# Altium schematic symbol library MY.SchLib: 652 symbols (part 2 of 7)
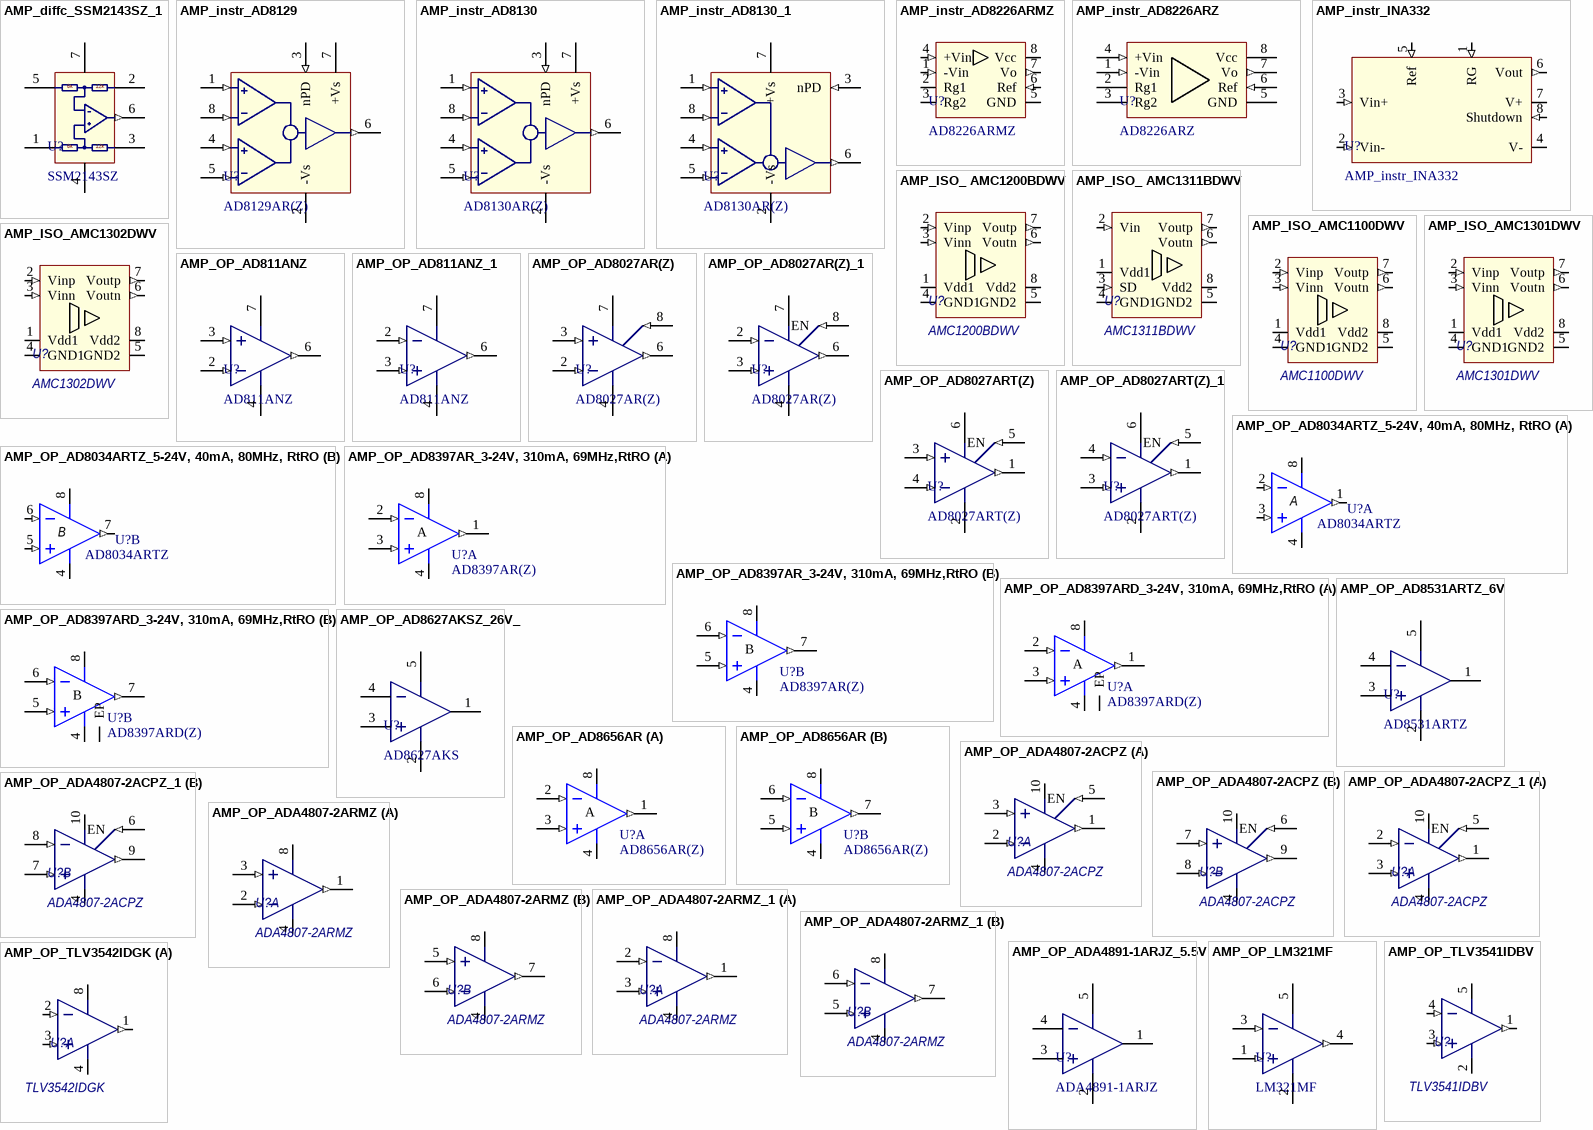
[diagram p42: symbols AMP_diffc_SSM2143SZ_1 to AMP_OP_TLV3542IDGK]

## AMP_OP_ADA4807-2ARMZ_1
designator U?, comment ADA4807-2ARMZ
2.7-11V, 50mA, 180MHz, R-R; HelpURL: L:\Dev\Техническая документация\Усилители\Операционные усилители\Высокоскоростные\ADA4807-1_4807-2_4807-4.pdf
footprint MSOP8
part A pins: 1 OUT (out), 2 -IN (in), 3 +IN (in), 4 Vss (power), 8 Vcc (power)
part B pins: 4 Vss (power), 5 +IN (in), 6 -IN (in), 7 OUT (out), 8 Vcc (power)

## AMP_OP_ADA4891-1ARJZ_5.5V
designator U?, comment ADA4891-1ARJZ
IC; Power Supply: 2.7-5.5V; Bandwidth: 220MHz, G=1; Rail to Rail: In, Out; Input Resistance: 5GOhm; Input Capacitance: 3.2pF; HelpURL: L:\Dev\Техническая документация\Усилители\Операционные усилители\Высокоскоростные\ADA4891-1_4891-2_4891-3_4891-4.PDF
footprint SOT23-5
pins: 1 OUT (power), 2 Vss (power), 3 +IN (power), 4 -IN (power), 5 Vcc (power)

## AMP_OP_LM321MF
designator U?, comment LM321MF
IC; Price, $: 0.4
footprint SOT23-5
pins: 1 +IN (in), 2 Vss (power), 3 -IN (in), 4 OUT (out), 5 Vcc (power)

## AMP_OP_TLV3541IDBV
designator U?, comment value TLV3541IDBV  (hidden comment: TLV3541IDBV, TI)
2.7-5.5V, 100mA, 200MHz, R-R; HelpURL: L:\Dev\Техническая документация\Усилители\Операционные усилители\Высокоскоростные\tlv3542_200MHz.pdf
footprint SOT23-5
pins: 1 OUT (out), 2 Vss (power), 3 +IN (in), 4 -IN (in), 5 Vcc (power)

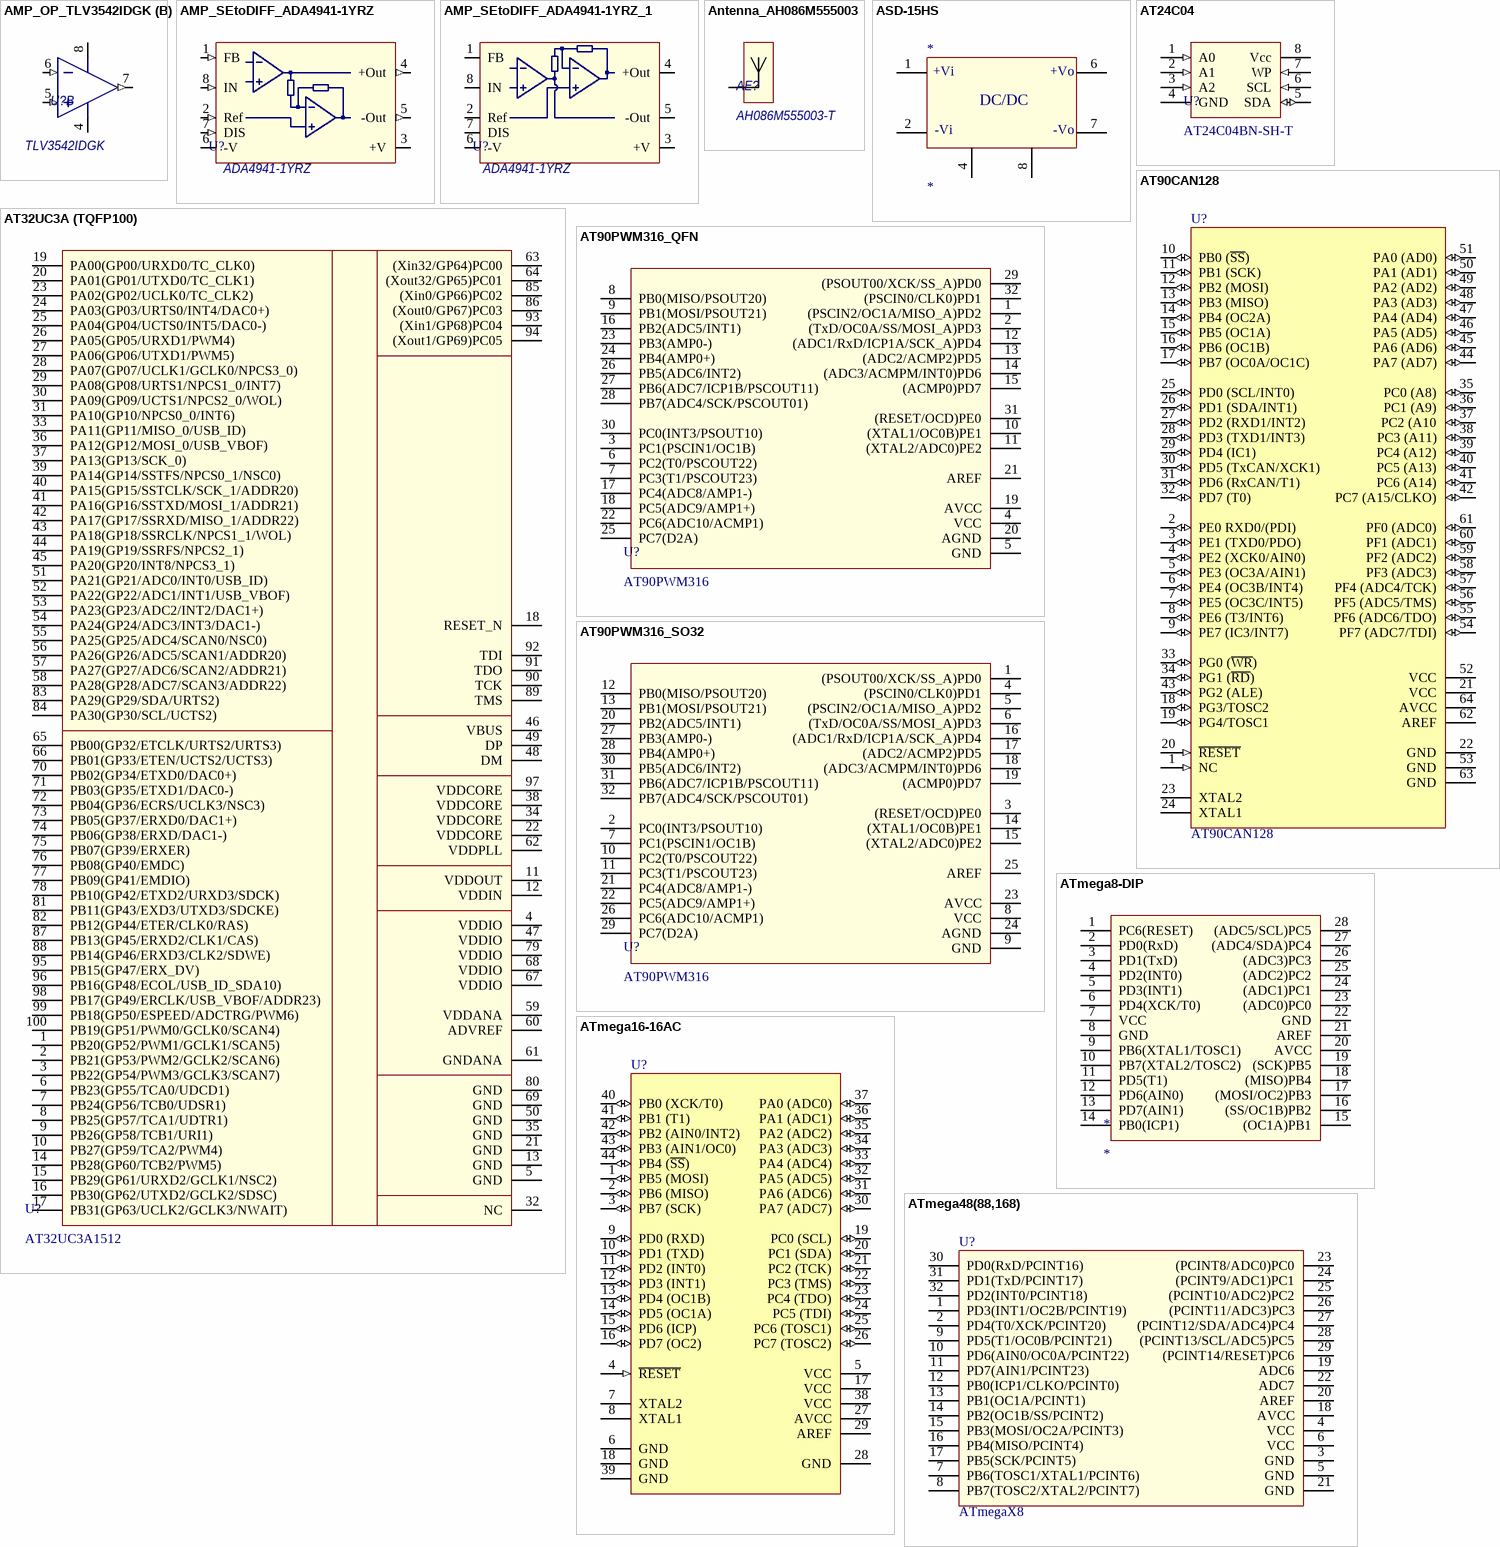
[diagram p6: symbols AMP_OP_TLV3542IDGK to ATmega48(88,168)]

## AMP_OP_TLV3542IDGK
designator U?, comment value TLV3542IDGK  (hidden comment: TLV3542IDGK, TI)
2.7-5.5V, 100mA, 200MHz, R-R; HelpURL: L:\Dev\Техническая документация\Усилители\Операционные усилители\Высокоскоростные\tlv3542_200MHz.pdf
footprint MSOP8
part A pins: 1 OUT (out), 2 -IN (in), 3 +IN (in), 4 Vss (power), 8 Vcc (power)
part B pins: 4 Vss (power), 5 +IN (in), 6 -IN (in), 7 OUT (out), 8 Vcc (power)

## AMP_SEtoDIFF_ADA4941-1YRZ
designator U?  value ADA4941-1YRZ  (hidden comment: AMP_SEtoDIFF_ADA4941-1YRZ)
HelpURL: L:\Dev\Техническая документация\Усилители\Драйвера для АЦП c диф входом\ADA4941-1.pdf
footprint SO8
pins: 1 FB (in), 2 Ref (in), 3 +V (power), 4 +Out (out), 5 -Out (out), 6 -V (power), 7 DIS (in), 8 IN (in)

## AMP_SEtoDIFF_ADA4941-1YRZ_1
designator U?  value ADA4941-1YRZ  (hidden comment: AMP_SEtoDIFF_ADA4941-1YRZ_1)
HelpURL: L:\Dev\Техническая документация\Усилители\Драйвера для АЦП c диф входом\ADA4941-1.pdf
footprint SO8
pins: 1 FB (power), 2 Ref (power), 3 +V (power), 4 +Out (power), 5 -Out (power), 6 -V (power), 7 DIS (power), 8 IN (power)

## Antenna_AH086M555003
designator AE?, comment AH086M555003-T
HelpURL: L:\Dev\Техническая документация\Антенны\СВЧ\AH086M555003.pdf
footprint Antenna_AH086M555003
pins: 5

## ASD-15HS
designator *
footprint DC/DC_WDD15-12S4
pins: 1, 2, 4, 6, 7, 8
text: +Vi; +Vo; DC/DC; -Vi; -Vo

## AT24C04
designator U?, comment AT24C04BN-SH-T
footprint SO8
pins: 1 A0 (in) "Address", 2 A1 (in) "Address", 3 A2 (in) "Address", 4 GND (power), 5 SDA (io) "I2C", 6 SCL (in) "I2C", 7 WP (in) "I2C", 8 Vcc (power) "Power"

## AT32UC3A (TQFP100)
designator U?, comment AT32UC3A1512
footprint TQFP-100(100A)
pins: 1 PB20(GP52/PWM1/GCLK1/SCAN5), 2 PB21(GP53/PWM2/GCLK2/SCAN6), 3 PB22(GP54/PWM3/GCLK3/SCAN7), 4 VDDIO, 5 GND, 6 PB23(GP55/TCA0/UDCD1), 7 PB24(GP56/TCB0/UDSR1), 8 PB25(GP57/TCA1/UDTR1), 9 PB26(GP58/TCB1/URI1), 10 PB27(GP59/TCA2/PWM4), 11 VDDOUT, 12 VDDIN, 13 GND, 14 PB28(GP60/TCB2/PWM5), 15 PB29(GP61/URXD2/GCLK1/NSC2), 16 PB30(GP62/UTXD2/GCLK2/SDSC), 17 PB31(GP63/UCLK2/GCLK3/NWAIT), 18 RESET_N, 19 PA00(GP00/URXD0/TC_CLK0), 20 PA01(GP01/UTXD0/TC_CLK1), 21 GND, 22 VDDCORE, 23 PA02(GP02/UCLK0/TC_CLK2), 24 PA03(GP03/URTS0/INT4/DAC0+), 25 PA04(GP04/UCTS0/INT5/DAC0-), 26 PA05(GP05/URXD1/PWM4), 27 PA06(GP06/UTXD1/PWM5), 28 PA07(GP07/UCLK1/GCLK0/NPCS3_0), 29 PA08(GP08/URTS1/NPCS1_0/INT7), 30 PA09(GP09/UCTS1/NPCS2_0/WOL), 31 PA10(GP10/NPCS0_0/INT6), 32 NC, 33 PA11(GP11/MISO_0/USB_ID), 34 VDDCORE, 35 GND, 36 PA12(GP12/MOSI_0/USB_VBOF), 37 PA13(GP13/SCK_0), 38 VDDCORE, 39 PA14(GP14/SSTFS/NPCS0_1/NSC0), 40 PA15(GP15/SSTCLK/SCK_1/ADDR20), 41 PA16(GP16/SSTXD/MOSI_1/ADDR21), 42 PA17(GP17/SSRXD/MISO_1/ADDR22), 43 PA18(GP18/SSRCLK/NPCS1_1/WOL), 44 PA19(GP19/SSRFS/NPCS2_1), 45 PA20(GP20/INT8/NPCS3_1), 46 VBUS, 47 VDDIO, 48 DM, 49 DP, 50 GND, 51 PA21(GP21/ADC0/INT0/USB_ID), 52 PA22(GP22/ADC1/INT1/USB_VBOF), 53 PA23(GP23/ADC2/INT2/DAC1+), 54 PA24(GP24/ADC3/INT3/DAC1-), 55 PA25(GP25/ADC4/SCAN0/NSC0), 56 PA26(GP26/ADC5/SCAN1/ADDR20), 57 PA27(GP27/ADC6/SCAN2/ADDR21), 58 PA28(GP28/ADC7/SCAN3/ADDR22), 59 VDDANA, 60 ADVREF, 61 GNDANA, 62 VDDPLL, 63 (Xin32/GP64)PC00, 64 (Xout32/GP65)PC01, 65 PB00(GP32/ETCLK/URTS2/URTS3), 66 PB01(GP33/ETEN/UCTS2/UCTS3), 67 VDDIO, 68 VDDIO, 69 GND, 70 PB02(GP34/ETXD0/DAC0+), 71 PB03(GP35/ETXD1/DAC0-), 72 PB04(GP36/ECRS/UCLK3/NSC3), 73 PB05(GP37/ERXD0/DAC1+), 74 PB06(GP38/ERXD/DAC1-), 75 PB07(GP39/ERXER), 76 PB08(GP40/EMDC), 77 PB09(GP41/EMDIO), 78 PB10(GP42/ETXD2/URXD3/SDCK), 79 VDDIO, 80 GND, 81 PB11(GP43/EXD3/UTXD3/SDCKE), 82 PB12(GP44/ETER/CLK0/RAS), 83 PA29(GP29/SDA/URTS2), 84 PA30(GP30/SCL/UCTS2), 85 (Xin0/GP66)PC02, 86 (Xout0/GP67)PC03, 87 PB13(GP45/ERXD2/CLK1/CAS), 88 PB14(GP46/ERXD3/CLK2/SDWE), 89 TMS, 90 TCK, 91 TDO, 92 TDI, 93 (Xin1/GP68)PC04, 94 (Xout1/GP69)PC05, 95 PB15(GP47/ERX_DV), 96 PB16(GP48/ECOL/USB_ID_SDA10), 97 VDDCORE, 98 PB17(GP49/ERCLK/USB_VBOF/ADDR23), 99 PB18(GP50/ESPEED/ADCTRG/PWM6), 100 PB19(GP51/PWM0/GCLK0/SCAN4)

## AT90CAN128
designator U?
8-Bit AVR Microcontroller with 64K Bytes of In-System Programmable Flash Memory; Published: 17-Sep-2003; LatestRevisionDate: 13-Apr-2006; LatestRevisionNote: IPC-7351 Footprint Added.; DatasheetVersion: 2490C-AVR-009/02; PackageVersion: revB, Oct-2001; PackageReference: 64A; Publisher: Altium Limited; PackageDescription: 64-Pin Thin Quad Flat Pack 0.8 mm Pitch; Code_JEDEC: MS-026-AEB; ComponentLink1Description: Manufacturer Link; ComponentLink1URL: http://www.atmel.com; ComponentLink2Description: Datasheet; ComponentLink2URL: http://www.atmel.com/dyn/resources/prod_documents/doc2490.pdf
footprint TQFP64 (64A) (Thin QFP, 64-Leads, Body 14x14mm, Pitch 0.8mm, IPC Medium Density)
pins: 1 NC (in), 2 PE0 RXD0/(PDI) (io), 3 PE1 (TXD0/PDO) (io), 4 PE2 (XCK0/AIN0) (io), 5 PE3 (OC3A/AIN1) (io), 6 PE4 (OC3B/INT4) (io), 7 PE5 (OC3C/INT5) (io), 8 PE6 (T3/INT6) (io), 9 PE7 (IC3/INT7) (io), 10 PB0 (~{SS}) (io), 11 PB1 (SCK) (io), 12 PB2 (MOSI) (io), 13 PB3 (MISO) (io), 14 PB4 (OC2A) (io), 15 PB5 (OC1A) (io), 16 PB6 (OC1B) (io), 17 PB7 (OC0A/OC1C) (io), 18 PG3/TOSC2 (io), 19 PG4/TOSC1 (io), 20 ~{RESET} (in), 21 VCC (power), 22 GND (power), 23 XTAL2, 24 XTAL1, 25 PD0 (SCL/INT0) (io), 26 PD1 (SDA/INT1) (io), 27 PD2 (RXD1/INT2) (io), 28 PD3 (TXD1/INT3) (io), 29 PD4 (IC1) (io), 30 PD5 (TxCAN/XCK1) (io), 31 PD6 (RxCAN/T1) (io), 32 PD7 (T0) (io), 33 PG0 (~{WR}) (io), 34 PG1 (~{RD}) (io), 35 PC0 (A8) (io), 36 PC1 (A9) (io), 37 PC2 (A10 (io), 38 PC3 (A11) (io), 39 PC4 (A12) (io), 40 PC5 (A13) (io), 41 PC6 (A14) (io), 42 PC7 (A15/CLKO) (io), 43 PG2 (ALE) (io), 44 PA7 (AD7) (io), 45 PA6 (AD6) (io), 46 PA5 (AD5) (io), 47 PA4 (AD4) (io), 48 PA3 (AD3) (io), 49 PA2 (AD2) (io), 50 PA1 (AD1) (io), 51 PA0 (AD0) (io), 52 VCC (power), 53 GND (power), 54 PF7 (ADC7/TDI) (io), 55 PF6 (ADC6/TDO) (io), 56 PF5 (ADC5/TMS) (io), 57 PF4 (ADC4/TCK) (io), 58 PF3 (ADC3) (io), 59 PF2 (ADC2) (io), 60 PF1 (ADC1) (io), 61 PF0 (ADC0) (io), 62 AREF, 63 GND (power), 64 AVCC (power)

## AT90PWM316_QFN
designator U?, comment AT90PWM316
footprint QFN32 (QFP; 32 Leads; Body 7 x 7 mm; Pitch 0.8 mm)
pins: 1 (PSCIN2/OC1A/MISO_A)PD2, 2 (TxD/OC0A/SS/MOSI_A)PD3, 3 PC1(PSCIN1/OC1B), 4 VCC, 5 GND, 6 PC2(T0/PSCOUT22), 7 PC3(T1/PSCOUT23), 8 PB0(MISO/PSOUT20), 9 PB1(MOSI/PSOUT21), 10 (XTAL1/OC0B)PE1, 11 (XTAL2/ADC0)PE2, 12 (ADC1/RxD/ICP1A/SCK_A)PD4, 13 (ADC2/ACMP2)PD5, 14 (ADC3/ACMPM/INT0)PD6, 15 (ACMP0)PD7, 16 PB2(ADC5/INT1), 17 PC4(ADC8/AMP1-), 18 PC5(ADC9/AMP1+), 19 AVCC, 20 AGND, 21 AREF, 22 PC6(ADC10/ACMP1), 23 PB3(AMP0-), 24 PB4(AMP0+), 25 PC7(D2A), 26 PB5(ADC6/INT2), 27 PB6(ADC7/ICP1B/PSCOUT11), 28 PB7(ADC4/SCK/PSCOUT01), 29 (PSOUT00/XCK/SS_A)PD0, 30 PC0(INT3/PSOUT10), 31 (RESET/OCD)PE0, 32 (PSCIN0/CLK0)PD1

## AT90PWM316_SO32
designator U?, comment AT90PWM316
footprint SO32
pins: 1 (PSOUT00/XCK/SS_A)PD0, 2 PC0(INT3/PSOUT10), 3 (RESET/OCD)PE0, 4 (PSCIN0/CLK0)PD1, 5 (PSCIN2/OC1A/MISO_A)PD2, 6 (TxD/OC0A/SS/MOSI_A)PD3, 7 PC1(PSCIN1/OC1B), 8 VCC, 9 GND, 10 PC2(T0/PSCOUT22), 11 PC3(T1/PSCOUT23), 12 PB0(MISO/PSOUT20), 13 PB1(MOSI/PSOUT21), 14 (XTAL1/OC0B)PE1, 15 (XTAL2/ADC0)PE2, 16 (ADC1/RxD/ICP1A/SCK_A)PD4, 17 (ADC2/ACMP2)PD5, 18 (ADC3/ACMPM/INT0)PD6, 19 (ACMP0)PD7, 20 PB2(ADC5/INT1), 21 PC4(ADC8/AMP1-), 22 PC5(ADC9/AMP1+), 23 AVCC, 24 AGND, 25 AREF, 26 PC6(ADC10/ACMP1), 27 PB3(AMP0-), 28 PB4(AMP0+), 29 PC7(D2A), 30 PB5(ADC6/INT2), 31 PB6(ADC7/ICP1B/PSCOUT11), 32 PB7(ADC4/SCK/PSCOUT01)

## ATmega8-DIP
designator *
pins: 1 PC6(RESET), 2 PD0(RxD), 3 PD1(TxD), 4 PD2(INT0), 5 PD3(INT1), 6 PD4(XCK/T0), 7 VCC, 8 GND, 9 PB6(XTAL1/TOSC1), 10 PB7(XTAL2/TOSC2), 11 PD5(T1), 12 PD6(AIN0), 13 PD7(AIN1), 14 PB0(ICP1), 15 (OC1A)PB1, 16 (SS/OC1B)PB2, 17 (MOSI/OC2)PB3, 18 (MISO)PB4, 19 (SCK)PB5, 20 AVCC, 21 AREF, 22 GND, 23 (ADC0)PC0, 24 (ADC1)PC1, 25 (ADC2)PC2, 26 (ADC3)PC3, 27 (ADC4/SDA)PC4, 28 (ADC5/SCL)PC5

## ATmega16-16AC
designator U?
8-Bit AVR Microcontroller with 16K Bytes of In-System Programmable Flash Memory; PackageDocument: rev.B, Oct-2001; Published: 17-Sep-2003; DatasheetDocument: 2466E-AVR-10/02; PackageReference: 44A; Publisher: Altium Limited
footprint 44A (QFP; 44 Leads; Body 10 x 10 mm; Pitch 0.8 mm)
pins: 1 PB5 (MOSI) (io), 2 PB6 (MISO) (io), 3 PB7 (SCK) (io), 4 ~{RESET} (in), 5 VCC (power), 6 GND (power), 7 XTAL2, 8 XTAL1, 9 PD0 (RXD) (io), 10 PD1 (TXD) (io), 11 PD2 (INT0) (io), 12 PD3 (INT1) (io), 13 PD4 (OC1B) (io), 14 PD5 (OC1A) (io), 15 PD6 (ICP) (io), 16 PD7 (OC2) (io), 17 VCC (power), 18 GND (power), 19 PC0 (SCL) (io), 20 PC1 (SDA) (io), 21 PC2 (TCK) (io), 22 PC3 (TMS) (io), 23 PC4 (TDO) (io), 24 PC5 (TDI) (io), 25 PC6 (TOSC1) (io), 26 PC7 (TOSC2) (io), 27 AVCC (power), 28 GND (power), 29 AREF, 30 PA7 (ADC7) (io), 31 PA6 (ADC6) (io), 32 PA5 (ADC5) (io), 33 PA4 (ADC4) (io), 34 PA3 (ADC3) (io), 35 PA2 (ADC2) (io), 36 PA1 (ADC1) (io), 37 PA0 (ADC0) (io), 38 VCC (power), 39 GND (power), 40 PB0 (XCK/T0) (io), 41 PB1 (T1) (io), 42 PB2 (AIN0/INT2) (io), 43 PB3 (AIN1/OC0) (io), 44 PB4 (~{SS}) (io)

## ATmega48(88,168)
designator U?, comment ATmegaX8
footprint TQFP32 (QFP; 32 Leads; Body 7 x 7 mm; Pitch 0.8 mm)
pins: 1 PD3(INT1/OC2B/PCINT19), 2 PD4(T0/XCK/PCINT20), 3 GND, 4 VCC, 5 GND, 6 VCC, 7 PB6(TOSC1/XTAL1/PCINT6), 8 PB7(TOSC2/XTAL2/PCINT7), 9 PD5(T1/OC0B/PCINT21), 10 PD6(AIN0/OC0A/PCINT22), 11 PD7(AIN1/PCINT23), 12 PB0(ICP1/CLKO/PCINT0), 13 PB1(OC1A/PCINT1), 14 PB2(OC1B/SS/PCINT2), 15 PB3(MOSI/OC2A/PCINT3), 16 PB4(MISO/PCINT4), 17 PB5(SCK/PCINT5), 18 AVCC, 19 ADC6, 20 AREF, 21 GND, 22 ADC7, 23 (PCINT8/ADC0)PC0, 24 (PCINT9/ADC1)PC1, 25 (PCINT10/ADC2)PC2, 26 (PCINT11/ADC3)PC3, 27 (PCINT12/SDA/ADC4)PC4, 28 (PCINT13/SCL/ADC5)PC5, 29 (PCINT14/RESET)PC6, 30 PD0(RxD/PCINT16), 31 PD1(TxD/PCINT17), 32 PD2(INT0/PCINT18)

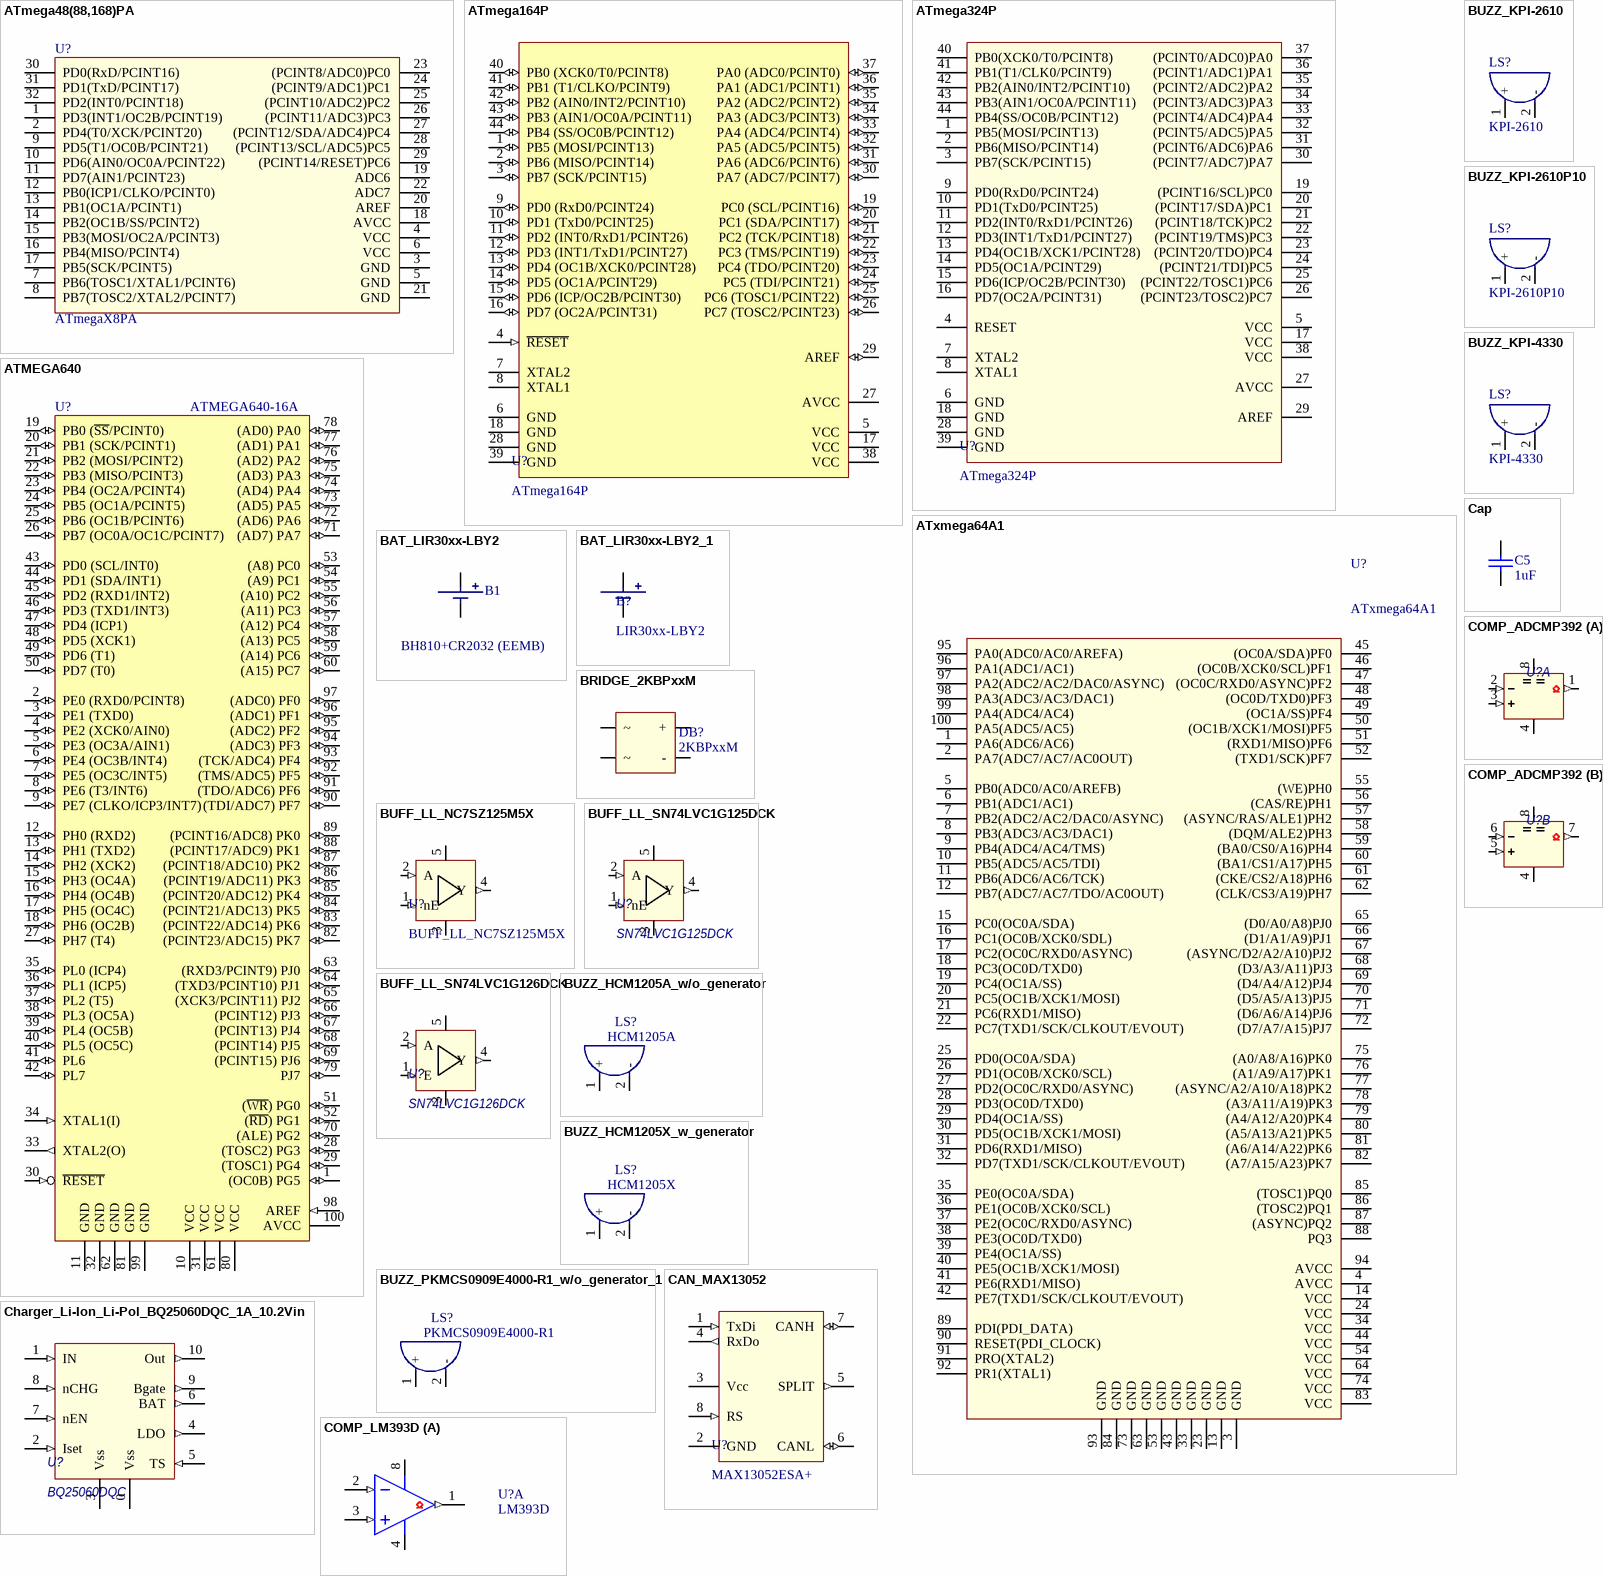
[diagram p7: symbols ATmega48(88,168)PA to COMP_LM393D]

## ATmega48(88,168)PA
designator U?, comment ATmegaX8PA
footprint TQFP32 (QFP; 32 Leads; Body 7 x 7 mm; Pitch 0.8 mm)
pins: 1 PD3(INT1/OC2B/PCINT19), 2 PD4(T0/XCK/PCINT20), 3 GND, 4 VCC, 5 GND, 6 VCC, 7 PB6(TOSC1/XTAL1/PCINT6), 8 PB7(TOSC2/XTAL2/PCINT7), 9 PD5(T1/OC0B/PCINT21), 10 PD6(AIN0/OC0A/PCINT22), 11 PD7(AIN1/PCINT23), 12 PB0(ICP1/CLKO/PCINT0), 13 PB1(OC1A/PCINT1), 14 PB2(OC1B/SS/PCINT2), 15 PB3(MOSI/OC2A/PCINT3), 16 PB4(MISO/PCINT4), 17 PB5(SCK/PCINT5), 18 AVCC, 19 ADC6, 20 AREF, 21 GND, 22 ADC7, 23 (PCINT8/ADC0)PC0, 24 (PCINT9/ADC1)PC1, 25 (PCINT10/ADC2)PC2, 26 (PCINT11/ADC3)PC3, 27 (PCINT12/SDA/ADC4)PC4, 28 (PCINT13/SCL/ADC5)PC5, 29 (PCINT14/RESET)PC6, 30 PD0(RxD/PCINT16), 31 PD1(TxD/PCINT17), 32 PD2(INT0/PCINT18)

## ATmega164P
designator U?
footprint TQFP44A (QFP; 44 Leads; Body 10 x 10 mm; Pitch 0.8 mm)
pins: 1 PB5 (MOSI/PCINT13) (io), 2 PB6 (MISO/PCINT14) (io), 3 PB7 (SCK/PCINT15) (io), 4 ~{RESET} (in), 5 VCC (power), 6 GND (power), 7 XTAL2, 8 XTAL1, 9 PD0 (RxD0/PCINT24) (io), 10 PD1 (TxD0/PCINT25) (io), 11 PD2 (INT0/RxD1/PCINT26) (io), 12 PD3 (INT1/TxD1/PCINT27) (io), 13 PD4 (OC1B/XCK0/PCINT28) (io), 14 PD5 (OC1A/PCINT29) (io), 15 PD6 (ICP/OC2B/PCINT30) (io), 16 PD7 (OC2A/PCINT31) (io), 17 VCC (power), 18 GND (power), 19 PC0 (SCL/PCINT16) (io), 20 PC1 (SDA/PCINT17) (io), 21 PC2 (TCK/PCINT18) (io), 22 PC3 (TMS/PCINT19) (io), 23 PC4 (TDO/PCINT20) (io), 24 PC5 (TDI/PCINT21) (io), 25 PC6 (TOSC1/PCINT22) (io), 26 PC7 (TOSC2/PCINT23) (io), 27 AVCC, 28 GND (power), 29 AREF (io), 30 PA7 (ADC7/PCINT7) (io), 31 PA6 (ADC6/PCINT6) (io), 32 PA5 (ADC5/PCINT5) (io), 33 PA4 (ADC4/PCINT4) (io), 34 PA3 (ADC3/PCINT3) (io), 35 PA2 (ADC2/PCINT2) (io), 36 PA1 (ADC1/PCINT1) (io), 37 PA0 (ADC0/PCINT0) (io), 38 VCC (power), 39 GND (power), 40 PB0 (XCK0/T0/PCINT8) (io), 41 PB1 (T1/CLKO/PCINT9) (io), 42 PB2 (AIN0/INT2/PCINT10) (io), 43 PB3 (AIN1/OC0A/PCINT11) (io), 44 PB4 (SS/OC0B/PCINT12) (io)

## ATmega324P
designator U?
footprint TQFP44A (QFP; 44 Leads; Body 10 x 10 mm; Pitch 0.8 mm)
pins: 1 PB5(MOSI/PCINT13), 2 PB6(MISO/PCINT14), 3 PB7(SCK/PCINT15), 4 RESET, 5 VCC, 6 GND, 7 XTAL2, 8 XTAL1, 9 PD0(RxD0/PCINT24), 10 PD1(TxD0/PCINT25), 11 PD2(INT0/RxD1/PCINT26), 12 PD3(INT1/TxD1/PCINT27), 13 PD4(OC1B/XCK1/PCINT28), 14 PD5(OC1A/PCINT29), 15 PD6(ICP/OC2B/PCINT30), 16 PD7(OC2A/PCINT31), 17 VCC, 18 GND, 19 (PCINT16/SCL)PC0, 20 (PCINT17/SDA)PC1, 21 (PCINT18/TCK)PC2, 22 (PCINT19/TMS)PC3, 23 (PCINT20/TDO)PC4, 24 (PCINT21/TDI)PC5, 25 (PCINT22/TOSC1)PC6, 26 (PCINT23/TOSC2)PC7, 27 AVCC, 28 GND, 29 AREF, 30 (PCINT7/ADC7)PA7, 31 (PCINT6/ADC6)PA6, 32 (PCINT5/ADC5)PA5, 33 (PCINT4/ADC4)PA4, 34 (PCINT3/ADC3)PA3, 35 (PCINT2/ADC2)PA2, 36 (PCINT1/ADC1)PA1, 37 (PCINT0/ADC0)PA0, 38 VCC, 39 GND, 40 PB0(XCK0/T0/PCINT8), 41 PB1(T1/CLK0/PCINT9), 42 PB2(AIN0/INT2/PCINT10), 43 PB3(AIN1/OC0A/PCINT11), 44 PB4(SS/OC0B/PCINT12)

## ATMEGA640
designator U?, comment ATMEGA640-16A
High-performance, Low-power AVR® 8-bit Microcontroller
footprint TQFP-100(100A)
signal-integrity model Model Name (Model Description)
pins: 1 (OC0B) PG5 (io), 2 PE0 (RXD0/PCINT8) (io), 3 PE1 (TXD0) (io), 4 PE2 (XCK0/AIN0) (io), 5 PE3 (OC3A/AIN1) (io), 6 PE4 (OC3B/INT4) (io), 7 PE5 (OC3C/INT5) (io), 8 PE6 (T3/INT6) (io), 9 PE7 (CLKO/ICP3/INT7) (io), 10 VCC (power), 11 GND (power), 12 PH0 (RXD2) (io), 13 PH1 (TXD2) (io), 14 PH2 (XCK2) (io), 15 PH3 (OC4A) (io), 16 PH4 (OC4B) (io), 17 PH5 (OC4C) (io), 18 PH6 (OC2B) (io), 19 PB0 (~{SS}/PCINT0) (io), 20 PB1 (SCK/PCINT1) (io), 21 PB2 (MOSI/PCINT2) (io), 22 PB3 (MISO/PCINT3) (io), 23 PB4 (OC2A/PCINT4) (io), 24 PB5 (OC1A/PCINT5) (io), 25 PB6 (OC1B/PCINT6) (io), 26 PB7 (OC0A/OC1C/PCINT7) (io), 27 PH7 (T4) (io), 28 (TOSC2) PG3 (io), 29 (TOSC1) PG4 (io), 30 ~{RESET} (in), 31 VCC (power), 32 GND (power), 33 XTAL2(O) (out), 34 XTAL1(I) (in), 35 PL0 (ICP4) (io), 36 PL1 (ICP5) (io), 37 PL2 (T5) (io), 38 PL3 (OC5A) (io), 39 PL4 (OC5B) (io), 40 PL5 (OC5C) (io), 41 PL6 (io), 42 PL7 (io), 43 PD0 (SCL/INT0) (io), 44 PD1 (SDA/INT1) (io), 45 PD2 (RXD1/INT2) (io), 46 PD3 (TXD1/INT3) (io), 47 PD4 (ICP1) (io), 48 PD5 (XCK1) (io), 49 PD6 (T1) (io), 50 PD7 (T0) (io), 51 (~{WR}) PG0 (io), 52 (~{RD}) PG1 (io), 53 (A8) PC0 (io), 54 (A9) PC1 (io), 55 (A10) PC2 (io), 56 (A11) PC3 (io), 57 (A12) PC4 (io), 58 (A13) PC5 (io), 59 (A14) PC6 (io), 60 (A15) PC7 (io), 61 VCC (power), 62 GND (power), 63 (RXD3/PCINT9) PJ0 (io), 64 (TXD3/PCINT10) PJ1 (io), 65 (XCK3/PCINT11) PJ2 (io), 66 (PCINT12) PJ3 (io), 67 (PCINT13) PJ4 (io), 68 (PCINT14) PJ5 (io), 69 (PCINT15) PJ6 (io), 70 (ALE) PG2 (io), 71 (AD7) PA7 (io), 72 (AD6) PA6 (io), 73 (AD5) PA5 (io), 74 (AD4) PA4 (io), 75 (AD3) PA3 (io), 76 (AD2) PA2 (io), 77 (AD1) PA1 (io), 78 (AD0) PA0 (io), 79 PJ7 (io), 80 VCC (power), 81 GND (power), 82 (PCINT23/ADC15) PK7 (io), 83 (PCINT22/ADC14) PK6 (io), 84 (PCINT21/ADC13) PK5 (io), 85 (PCINT20/ADC12) PK4 (io), 86 (PCINT19/ADC11) PK3 (io), 87 (PCINT18/ADC10) PK2 (io), 88 (PCINT17/ADC9) PK1 (io), 89 (PCINT16/ADC8) PK0 (io), 90 (TDI/ADC7) PF7 (io), 91 (TDO/ADC6) PF6 (io), 92 (TMS/ADC5) PF5 (io), 93 (TCK/ADC4) PF4 (io), 94 (ADC3) PF3 (io), 95 (ADC2) PF2 (io), 96 (ADC1) PF1 (io), 97 (ADC0) PF0 (io), 98 AREF (in), 99 GND (power), 100 AVCC (power)

## ATxmega64A1
designator U?
footprint TQFP-100(100A)
pins: 1 PA6(ADC6/AC6), 2 PA7(ADC7/AC7/AC0OUT), 3 GND, 4 AVCC, 5 PB0(ADC0/AC0/AREFB), 6 PB1(ADC1/AC1), 7 PB2(ADC2/AC2/DAC0/ASYNC), 8 PB3(ADC3/AC3/DAC1), 9 PB4(ADC4/AC4/TMS), 10 PB5(ADC5/AC5/TDI), 11 PB6(ADC6/AC6/TCK), 12 PB7(ADC7/AC7/TDO/AC0OUT), 13 GND, 14 VCC, 15 PC0(OC0A/SDA), 16 PC1(OC0B/XCK0/SDL), 17 PC2(OC0C/RXD0/ASYNC), 18 PC3(OC0D/TXD0), 19 PC4(OC1A/SS), 20 PC5(OC1B/XCK1/MOSI), 21 PC6(RXD1/MISO), 22 PC7(TXD1/SCK/CLKOUT/EVOUT), 23 GND, 24 VCC, 25 PD0(OC0A/SDA), 26 PD1(OC0B/XCK0/SCL), 27 PD2(OC0C/RXD0/ASYNC), 28 PD3(OC0D/TXD0), 29 PD4(OC1A/SS), 30 PD5(OC1B/XCK1/MOSI), 31 PD6(RXD1/MISO), 32 PD7(TXD1/SCK/CLKOUT/EVOUT), 33 GND, 34 VCC, 35 PE0(OC0A/SDA), 36 PE1(OC0B/XCK0/SCL), 37 PE2(OC0C/RXD0/ASYNC), 38 PE3(OC0D/TXD0), 39 PE4(OC1A/SS), 40 PE5(OC1B/XCK1/MOSI), 41 PE6(RXD1/MISO), 42 PE7(TXD1/SCK/CLKOUT/EVOUT), 43 GND, 44 VCC, 45 (OC0A/SDA)PF0, 46 (OC0B/XCK0/SCL)PF1, 47 (OC0C/RXD0/ASYNC)PF2, 48 (OC0D/TXD0)PF3, 49 (OC1A/SS)PF4, 50 (OC1B/XCK1/MOSI)PF5, 51 (RXD1/MISO)PF6, 52 (TXD1/SCK)PF7, 53 GND, 54 VCC, 55 (WE)PH0, 56 (CAS/RE)PH1, 57 (ASYNC/RAS/ALE1)PH2, 58 (DQM/ALE2)PH3, 59 (BA0/CS0/A16)PH4, 60 (BA1/CS1/A17)PH5, 61 (CKE/CS2/A18)PH6, 62 (CLK/CS3/A19)PH7, 63 GND, 64 VCC, 65 (D0/A0/A8)PJ0, 66 (D1/A1/A9)PJ1, 67 (ASYNC/D2/A2/A10)PJ2, 68 (D3/A3/A11)PJ3, 69 (D4/A4/A12)PJ4, 70 (D5/A5/A13)PJ5, 71 (D6/A6/A14)PJ6, 72 (D7/A7/A15)PJ7, 73 GND, 74 VCC, 75 (A0/A8/A16)PK0, 76 (A1/A9/A17)PK1, 77 (ASYNC/A2/A10/A18)PK2, 78 (A3/A11/A19)PK3, 79 (A4/A12/A20)PK4, 80 (A5/A13/A21)PK5, 81 (A6/A14/A22)PK6, 82 (A7/A15/A23)PK7, 83 VCC, 84 GND, 85 (TOSC1)PQ0, 86 (TOSC2)PQ1, 87 (ASYNC)PQ2, 88 PQ3, 89 PDI(PDI_DATA), 90 RESET(PDI_CLOCK), 91 PRO(XTAL2), 92 PR1(XTAL1), 93 GND, 94 AVCC, 95 PA0(ADC0/AC0/AREFA), 96 PA1(ADC1/AC1), 97 PA2(ADC2/AC2/DAC0/ASYNC), 98 PA3(ADC3/AC3/DAC1), 99 PA4(ADC4/AC4), 100 PA5(ADC5/AC5)

## BAT_LIR30xx-LBY2
designator B1, comment BH810+CR2032 (EEMB)
Answer: акк:LIR2016, LIR2025, LIR2032 бат:CR2032 (EEMB)
footprint BATHOLDER_BH810_d20mm
pins: 1 plus (power), 2 plus (power)

## BAT_LIR30xx-LBY2_1
designator B?, comment LIR30xx-LBY2
footprint BAT_LIR30xx-LBY2
pins: 1 plus (power), 2 plus (power)

## BRIDGE_2KBPxxM
designator DB?, comment 2KBPxxM
Analog: RS20x (www.cnmic.com)
footprint Bridge_2KBPxx_KBPG
pins: 1 +, 2 ~, 3 ~, 4 -

## BUFF_LL_NC7SZ125M5X
designator U?
footprint SOT23-5
pins: 1 nE (in), 2 A (in), 3 GND (power), 4 Y (out), 5 Vcc (power)

## BUFF_LL_SN74LVC1G125DCK
designator U?, comment SN74LVC1G125DCK
HelpURL: L:\Dev\Техническая документация\Логика\Буферы\sn74lvc1g126_ThreeState.pdf
footprint SC-70-5
pins: 1 nE (in), 2 A (in), 3 GND (power), 4 Y (out), 5 Vcc (power)

## BUFF_LL_SN74LVC1G126DCK
designator U?, comment SN74LVC1G126DCK
HelpURL: L:\Dev\Техническая документация\Логика\Буферы\sn74lvc1g126_ThreeState.pdf
footprint SC-70-5
pins: 1 E (in), 2 A (in), 3 GND (power), 4 Y (out), 5 Vcc (power)

## BUZZ_HCM1205A_w/o_generator
designator LS?, comment HCM1205A
footprint BUZZ-1205A
pins: 1 +, 2 -

## BUZZ_HCM1205X_w_generator
designator LS?, comment HCM1205X
footprint BUZZ-1205A
pins: 1 +, 2 -

## BUZZ_KPI-2610
designator LS?, comment KPI-2610
footprint BUZZ_KPI2610
pins: 1 +, 2 -

## BUZZ_KPI-2610P10
designator LS?, comment KPI-2610P10
footprint BUZZ_KPI2610P10
pins: 1 +, 2 -

## BUZZ_KPI-4330
designator LS?, comment KPI-4330
footprint BUZZ_KPI4330
pins: 1 +, 2 -

## BUZZ_PKMCS0909E4000-R1_w/o_generator_1
designator LS?, comment PKMCS0909E4000-R1
footprint BUZZ-PKMCS0909E4000-R1
pins: 1 +, 2 -

## CAN_MAX13052
designator U?, comment MAX13052ESA+
HelpURL: L:\Dev\Техническая документация\Интерфейсы\CAN\MAX13050-MAX13054.pdf
footprint SO8
pins: 1 TxDi (in), 2 GND (power), 3 Vcc (power), 4 RxDo (out), 5 SPLIT (out), 6 CANL (io), 7 CANH (io), 8 RS (in)

## Cap
designator C5, comment value 1uF  (hidden comment: 1u X 50V)
Capacitor; Published: 8-Jun-2000; LatestRevisionDate: 17-Jul-2002; LatestRevisionNote: Re-released for DXP Platform.; Publisher: Altium Limited
footprint 0805
footprint CAPR2.54-5.1x3.2 (Capacitor, Ceramic, Thru-Hole, Dipped Radial; Body 5.1 x 3.2 mm (WxT) Pin Spacing 2.54 mm (typ))
footprint CAPR5.08-7.8x3.2 (Capacitor, Ceramic, Thru-Hole, Dipped Radial; Body 7.8 x 3.2 mm (WxT) Pin Spacing 5.08 mm (typ))
simulation model CAP (Capacitor)
signal-integrity model Cap
pins: 1, 2

## Charger_Li-Ion_Li-Pol_BQ25060DQC_1A_10.2Vin
designator U?, comment BQ25060DQC
HelpURL: L:\Dev\Техническая документация\Микросхемы зарядные\Li-Ion_Li-Pol\bq25060.pdf
footprint PWSON-10-N10_TI
pins: 0 Vss (power), 1 IN (in), 2 Iset (in), 3 Vss (power), 4 LDO (out), 5 TS (in), 6 BAT (out), 7 nEN (in), 8 nCHG (in), 9 Bgate (out), 10 Out (out)

## COMP_ADCMP392
designator U?, comment ADCMP392ARZ  (value not drawn)
HelpURL: L:\Dev\Техническая документация\Компараторы\LowVoffset\ADCMP391_392_393.pdf
footprint SO8
part A pins: 1 OUT (out), 2 IN- (in), 3 IN+ (in), 4 V- (power), 8 V+ (power)
part B pins: 4 V- (power), 5 IN+ (in), 6 IN- (in), 7 OUT (out), 8 V+ (power)

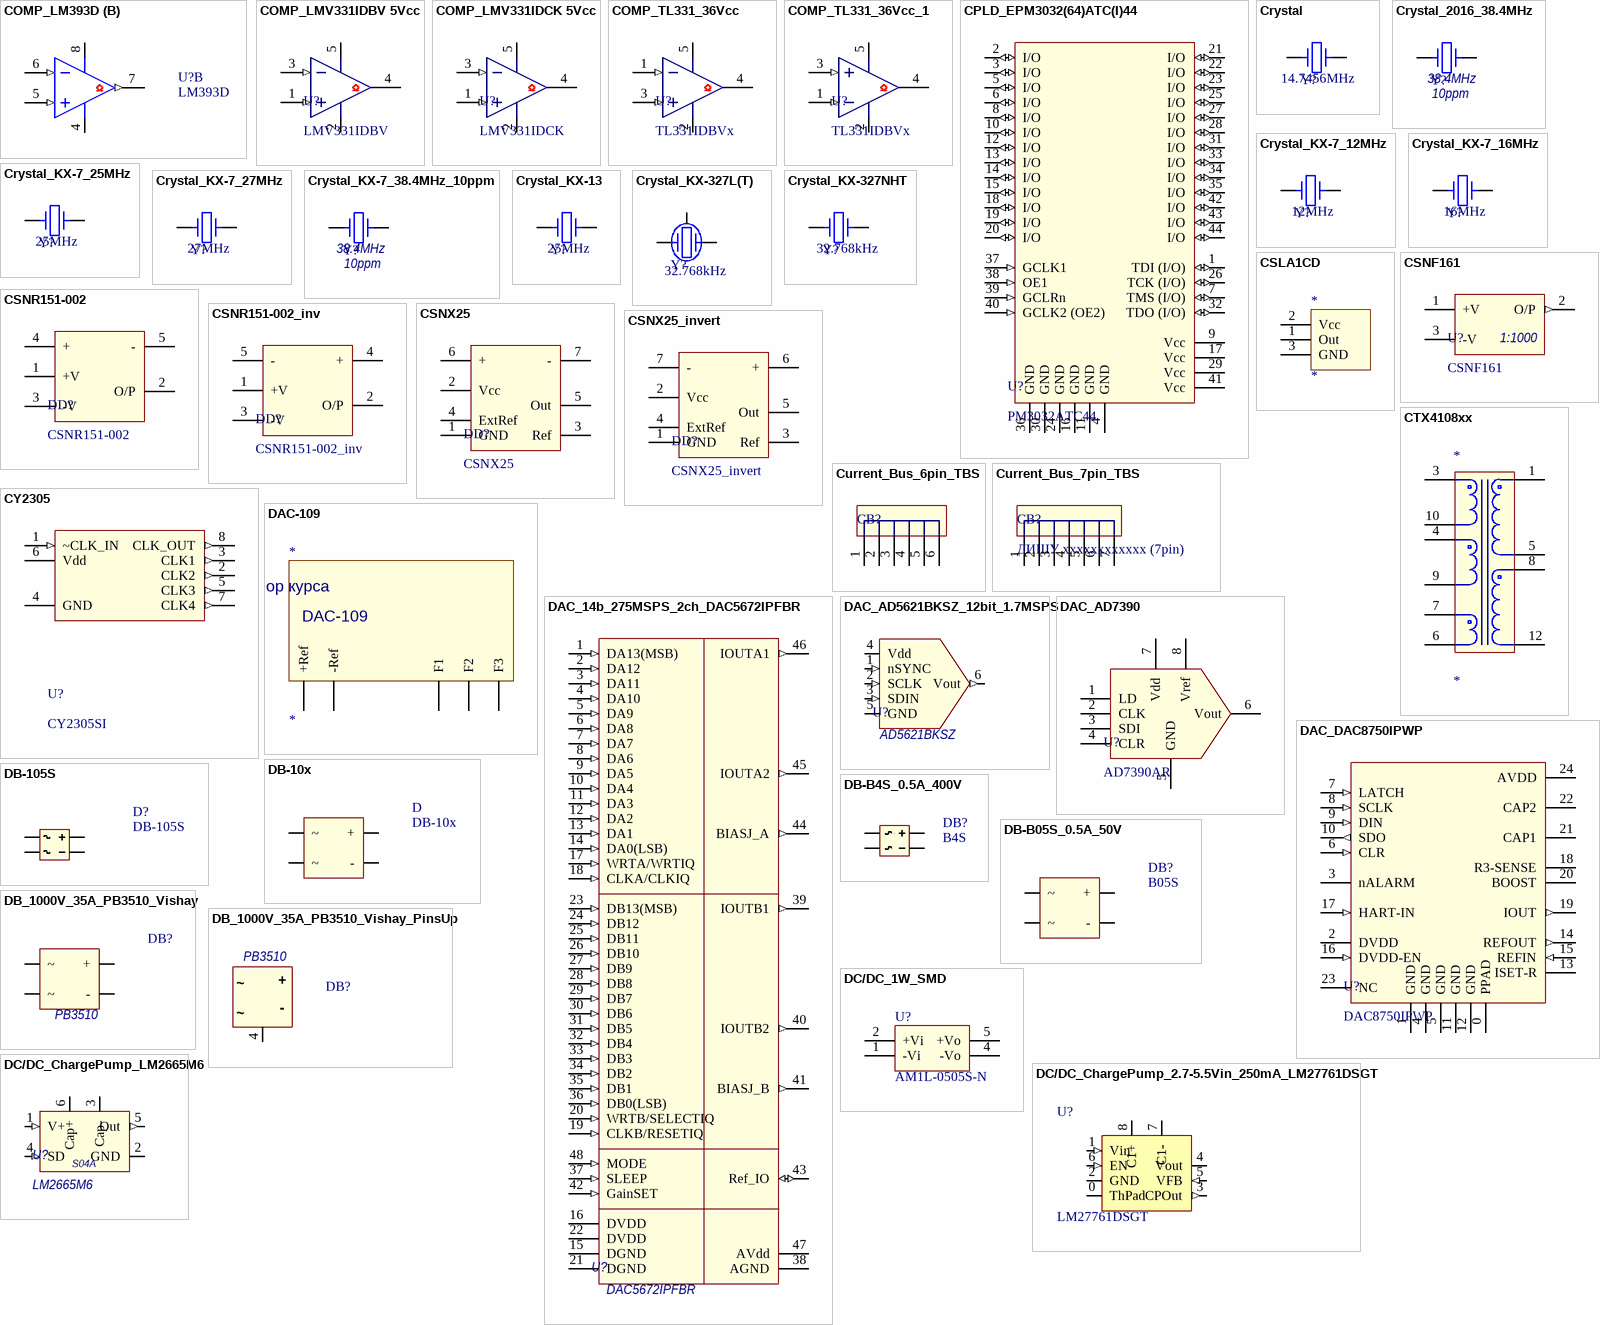
[diagram p8: symbols COMP_LM393D to DC/DC_ChargePump_LM2665M6]

## COMP_LM393D
designator U?, comment LM393D
Dual Comparator; Published: 17-Jul-2002; LatestRevisionDate: 13-Apr-2006; LatestRevisionNote: IPC-7351 Footprint Added.; DatasheetVersion: 1988; PackageReference: 751-02; Publisher: Altium Limited; PackageDescription: 8-Pin Small Outline Integrated Circuit 1.27 mm Pitch; Code_JEDEC: MS-012-AA; Code_IPC: SOIC127P600-8; ComponentLink1Description: Manufacturer Link; ComponentLink1URL: http://www.onsemi.com/site/products/taxonomy/0,4438,133,00.html
footprint SO8
part A pins: 1 OUT (out), 2 IN- (in), 3 IN+ (in), 4 V- (power), 8 V+ (power)
part B pins: 4 V- (power), 5 IN+ (in), 6 IN- (in), 7 OUT (out), 8 V+ (power)

## COMP_LMV331IDBV 5Vcc
designator U?, comment LMV331IDBV
IC; HelpURL: L:\Dev\Техническая документация\Компараторы\lmv331.pdf
footprint SOT23-5
pins: 1 +IN (in), 2 Vss (power), 3 -IN (in), 4 OUT (oc), 5 Vcc (power)

## COMP_LMV331IDCK 5Vcc
designator U?, comment LMV331IDCK
IC; HelpURL: L:\Dev\Техническая документация\Компараторы\lmv331.pdf
footprint SC-70-5
pins: 1 +IN (in), 2 Vss (power), 3 -IN (in), 4 OUT (oc), 5 Vcc (power)

## COMP_TL331_36Vcc
designator U?, comment TL331IDBVx
IC; HelpURL: L:\Dev\Техническая документация\Компараторы\tl331_36V_single.pdf; Price, $: 0.25
footprint SOT23-5
pins: 1 -IN (in), 2 Vss (power), 3 +IN (in), 4 OUT (oc), 5 Vcc (power)

## COMP_TL331_36Vcc_1
designator U?, comment TL331IDBVx
IC; HelpURL: L:\Dev\Техническая документация\Компараторы\tl331_36V_single.pdf; Price, $: 0.25
footprint SOT23-5
pins: 1 -IN (in), 2 Vss (power), 3 +IN (in), 4 OUT (oc), 5 Vcc (power)

## CPLD_EPM3032(64)ATC(I)44
designator U?, comment PM3032ATC44
footprint TQFP44A (QFP; 44 Leads; Body 10 x 10 mm; Pitch 0.8 mm)
pins: 1 TDI (I/O) (io), 2 I/O (io), 3 I/O (io), 4 GND (power), 5 I/O (io), 6 I/O (io), 7 TMS (I/O) (io), 8 I/O (io), 9 Vcc (power), 10 I/O (io), 11 GND (power), 12 I/O (io), 13 I/O (io), 14 I/O (io), 15 I/O (io), 16 GND (power), 17 Vcc (power), 18 I/O (io), 19 I/O (io), 20 I/O (io), 21 I/O (io), 22 I/O (io), 23 I/O (io), 24 GND (power), 25 I/O (io), 26 TCK (I/O) (io), 27 I/O (io), 28 I/O (io), 29 Vcc (power), 30 GND (power), 31 I/O (io), 32 TDO (I/O) (io), 33 I/O (io), 34 I/O (io), 35 I/O (io), 36 GND (power), 37 GCLK1 (in), 38 OE1 (in), 39 GCLRn (in), 40 GCLK2 (OE2) (in), 41 Vcc (power), 42 I/O (io), 43 I/O (io), 44 I/O (io)

## Crystal
designator Y?, comment Frequency: 14.7456MHz  (hidden comment: KX-3H(KX-K, KX-KS) 14.7456MHz)
Analog: KX-3H(T), KX-K, KX-KS
footprint CRYSTAL_DIP+SMD(HC-49S(M))
pins: 1, 2

## Crystal_2016_38.4MHz
designator Y?, comment Frequency: 38.4MHz  Tolerance: 10ppm  (hidden comment: 402F38411CAR,CTS)
Analog: 8Y-38.400MEEQ-T, TXC; HelpURL: L:\Dev\Техническая документация\Кварцевые резонаторы\CTS\402xxxxx.pdf
footprint CRYSTAL_SMD_2016
pins: 1, 2 hidden to GND, 3, 4 hidden to GND

## Crystal_KX-7_12MHz
designator Y?, comment Frequency: 12MHz  (hidden comment: NX3225GA-12MHZ)
Analog: KX-7-12MHz, Geyer
footprint CRYSTAL_SMD_3225_KX-7
pins: 1, 2 hidden to GND, 3, 4 hidden to GND

## Crystal_KX-7_16MHz
designator Y?, comment Frequency: 16MHz  (hidden comment: NX3225GA-16MHZ)
Analog: KX-7, Geyer
footprint CRYSTAL_SMD_3225_KX-7
pins: 1, 2 hidden to GND, 3, 4 hidden to GND

## Crystal_KX-7_25MHz
designator Y?, comment Frequency: 25MHz  (hidden comment: NX3225GA-25MHZ)
Analog: KX-7, Geyer; HelpURL: L:\Dev\Техническая документация\Кварцевые резонаторы\NDK\NX3225GA.pdf
footprint CRYSTAL_SMD_3225_KX-7
pins: 1, 2 hidden to GND, 3, 4 hidden to GND

## Crystal_KX-7_27MHz
designator Y?, comment Frequency: 27MHz  (hidden comment: NX3225GA-27MHZ)
Analog: KX-7-27MHz, Geyer
footprint CRYSTAL_SMD_3225_KX-7
pins: 1, 2 hidden to GND, 3, 4 hidden to GND

## Crystal_KX-7_38.4MHz_10ppm
designator Y?, comment Tolerance: 10ppm  Frequency: 38.4MHz  (hidden comment: FL3840006CT, Pericom)
Analog: FL3840015ZCT, Pericom; Load Capacitance: 10p
footprint CRYSTAL_SMD_3225_KX-7
pins: 1, 2 hidden to GND, 3, 4 hidden to GND

## Crystal_KX-13
designator Y?, comment Frequency: 25MHz  (hidden comment: KX-13)
Analog: KX-3H(T), KX-K, KX-KS
footprint qartz_KX-13
pins: 1, 2 hidden to GND, 3, 4 hidden to GND

## Crystal_KX-327L(T)
designator Y?, comment Frequency: 32.768kHz  (hidden comment: KX-327L(T)-32.7680-kHz)
Analog: KX-3H(T), KX-K, KX-KS
footprint CRYSTAL_KX-327L(T)
pins: 1, 2, 3, 4

## Crystal_KX-327NHT
designator Y?, comment Frequency: 32.768kHz  (hidden comment: NX3215SA-32.768K-10ppm-45KOhm-6pF)
Analog: KX-327NHT
footprint CRYSTAL_SMD_3215_KX-327NHT
pins: 1, 2

## CSLA1CD
designator *
footprint CSLA1CD
pins: 1 Out, 2 Vcc, 3 GND

## CSNF161
designator U?
footprint SENS_CSNF161
pins: 1 +V (power), 2 O/P (out), 3 -V (power)
text: 1:1000

## CSNR151-002
designator DD?
footprint CSNR151-002
pins: 1 +V, 2 O/P, 3 -V, 4 +, 5 -

## CSNR151-002_inv
designator DD?
footprint CSNR151-002
pins: 1 +V, 2 O/P, 3 -V, 4 +, 5 -

## CSNX25
designator DD?
footprint CSNX25
pins: 1 GND, 2 Vcc, 3 Ref, 4 ExtRef, 5 Out, 6 +, 7 -

## CSNX25_invert
designator DD?
footprint CSNX25
pins: 1 GND, 2 Vcc, 3 Ref, 4 ExtRef, 5 Out, 6 +, 7 -

## CTX4108xx
designator *
footprint CTX4108xx
pins: 1, 3, 4, 5, 6, 7, 8, 9, 10, 12

## Current_Bus_6pin_TBS
designator CB?, comment ДИШУ.270807.00.01 _ Токовая шина 6pin  (value not drawn)
footprint Current_bus_6pin_TBS
pins: 1, 2, 3, 4, 5, 6

## Current_Bus_7pin_TBS
designator CB?, comment ДИШУ хххххххххххх (7pin)
footprint Current_bus_7pin_TBS
pins: 1, 2, 3, 4, 5, 6, 7

## CY2305
designator U?, comment CY2305SI
footprint SO8
pins: 1 ~CLK_IN (in), 2 CLK2 (out), 3 CLK1 (out), 4 GND (power), 5 CLK3 (out), 6 Vdd (power), 7 CLK4 (out), 8 CLK_OUT (out)

## DAC-109
designator *
pins: 2 +Ref, 3 -Ref, 4 F1, 5 F2, 6 F3
text: Транслятор курса

## DAC_14b_275MSPS_2ch_DAC5672IPFBR
designator U?, comment value DAC5672IPFBR  (hidden comment: DAC5672IPFBR, TI)
HelpURL: L:\Dev\Техническая документация\DAC\HighSpeed\dac5672_14bit_275MSPS.pdf
footprint LQFP48_UNICONT
pins: 1 DA13(MSB) (in), 2 DA12 (in), 3 DA11 (in), 4 DA10 (in), 5 DA9 (in), 6 DA8 (in), 7 DA7 (in), 8 DA6 (in), 9 DA5 (in), 10 DA4 (in), 11 DA3 (in), 12 DA2 (in), 13 DA1 (in), 14 DA0(LSB) (in), 15 DGND (power), 16 DVDD (power), 17 WRTA/WRTIQ (in), 18 CLKA/CLKIQ (in), 19 CLKB/RESETIQ (in), 20 WRTB/SELECTIQ (in), 21 DGND (power), 22 DVDD (power), 23 DB13(MSB) (in), 24 DB12 (in), 25 DB11 (in), 26 DB10 (in), 27 DB9 (in), 28 DB8 (in), 29 DB7 (in), 30 DB6 (in), 31 DB5 (in), 32 DB4 (in), 33 DB3 (in), 34 DB2 (in), 35 DB1 (in), 36 DB0(LSB) (in), 37 SLEEP (in), 38 AGND (power), 39 IOUTB1 (out), 40 IOUTB2 (out), 41 BIASJ_B (out), 42 GainSET (in), 43 Ref_IO (io), 44 BIASJ_A (out), 45 IOUTA2 (out), 46 IOUTA1 (out), 47 AVdd (power), 48 MODE (in)

## DAC_AD5621BKSZ_12bit_1.7MSPS
designator U?, comment value AD5621BKSZ  (hidden comment: AD5621BKSZ, Analog)
HelpURL: L:\Dev\Техническая документация\DAC\1-2MSPS\AD5601_5611_5621_1.7MSPS8_10_12bit_Analog.pdf
footprint SC-70-6
pins: 1 nSYNC (in), 2 SCLK (in), 3 SDIN (in), 4 Vdd (power), 5 GND (power), 6 Vout (out)

## DAC_AD7390
designator U?, comment AD7390AR
footprint SO8
pins: 1 LD, 2 CLK, 3 SDI, 4 CLR, 5 GND, 6 Vout, 7 Vdd, 8 Vref

## DAC_DAC8750IPWP
designator U?, comment DAC8750IPWP
HelpURL: L:\Dev\Техническая документация\Интерфейсы\4-20mA\DAC\dac8750.pdf
footprint HTSSOP24
pins: 0 PPAD (power), 1 GND (power), 2 DVDD (power), 3 nALARM (oc), 4 GND (power), 5 GND (power), 6 CLR (in), 7 LATCH (in), 8 SCLK (in), 9 DIN (in), 10 SDO (out), 11 GND (power), 12 GND (power), 13 ISET-R, 14 REFOUT (out), 15 REFIN (in), 16 DVDD-EN (in), 17 HART-IN (in), 18 R3-SENSE, 19 IOUT (out), 20 BOOST, 21 CAP1, 22 CAP2, 23 NC, 24 AVDD (power)

## DB-10x
designator D
footprint DB-10X_SMD
pins: 1 ~, 2 ~, 3 +, 4 -

## DB-105S
designator D?
footprint DB-10X_SMD
pins: 1 ~, 2 ~, 3 +, 4 -

## DB-B4S_0.5A_400V
designator DB?, comment B4S
Voltage: 400Vdc; Current RMS: 0.5A; HelpURL: L:\Dev\Техническая документация\Диодные мосты\0.5A\B05S-B10S.pdf
footprint DB-1MS
pins: 1 ~, 2 ~, 3 +, 4 -

## DB-B05S_0.5A_50V
designator DB?, comment B05S
Voltage: 50Vdc; Current RMS: 0.5A; HelpURL: L:\Dev\Техническая документация\Диодные мосты\0.5A\B05S-B10S.pdf
footprint DB-1MS
pins: 1 ~, 2 ~, 3 +, 4 -

## DB_1000V_35A_PB3510_Vishay
designator DB?, comment value PB3510  (hidden comment: PB3510, Vishay)
HelpURL: L:\Dev\Техническая документация\Диодные мосты\pb3506_pb3508_pb3510.pdf
footprint DB_PBxxxx_Vishay_botside
pins: 1 +, 2 ~, 3 ~, 4 -

## DB_1000V_35A_PB3510_Vishay_PinsUp
designator DB?, comment value PB3510  (hidden comment: PB3510, Vishay)
HelpURL: L:\Dev\Техническая документация\Диодные мосты\pb3506_pb3508_pb3510.pdf
footprint DB_PBxxxx_Vishay_PinsUp
pins: 4 PowerPad (power)
text: ~; +; -

## DC/DC_1W_SMD
designator U?, comment AM1L-0505S-N
footprint DC/DC_1W_SMD
pins: 1 -Vi, 2 +Vi, 4 -Vo, 5 +Vo

## DC/DC_ChargePump_2.7-5.5Vin_250mA_LM27761DSGT
designator U?, comment LM27761DSGT
Part Number: IC_CHPM_LM27761DSGT_V000; Value: Charge Pump 2MHz, Low noise, 250mA; Voltage1: 2.7; Voltage2: 5.5; Inom: 0.25; id: {2ED8BF53-6B4C-4806-944D-8337EAA5B0B5}; Footprint: WSON8; Library Reference: LM27761DSGT; Pin Count: 9; HelpURL: L:\Dev\Техническая документация\Стабилизаторы напряжения\Импульсные (DC-DC не изол)\ChargePump\250mA_2.7-5Vin_LDO_lm27761.pdf
footprint WSON-8_TI
pins: 0 ThPad, 1 Vin (in), 2 GND (power), 3 CPOut (out), 4 Vout (power), 5 VFB (in), 6 EN (in), 7 C1-, 8 C1+

## DC/DC_ChargePump_LM2665M6
designator U?, comment LM2665M6
HelpURL: L:\Dev\Техническая документация\Стабилизаторы напряжения\Импульсные (DC-DC не изол)\ChargePump\tps6040x_60mA_1.6..5.5Vin.pdf
footprint SOT23-6
pins: 1 V+ (in), 2 GND (power), 3 Cap-, 4 SD (in), 5 Out (out), 6 Cap+
text: S04A

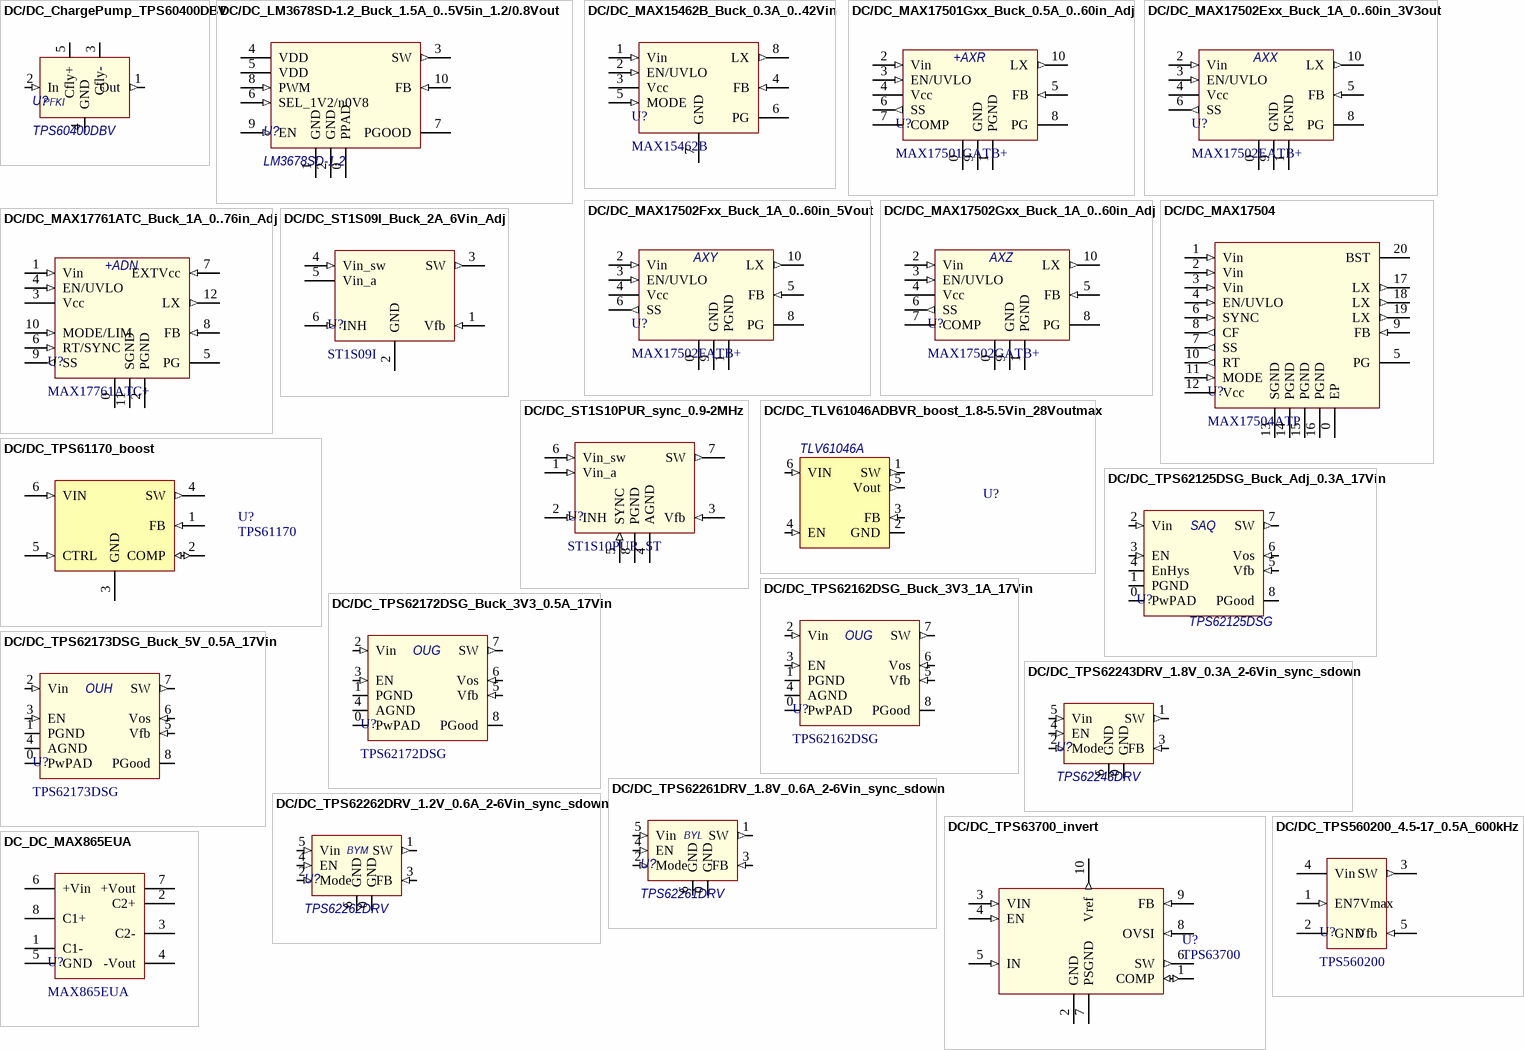
[diagram p9: symbols DC/DC_ChargePump_TPS60400DBV to DC_DC_MAX865EUA]

## DC/DC_ChargePump_TPS60400DBV
designator U?, comment TPS60400DBV
HelpURL: L:\Dev\Техническая документация\Стабилизаторы напряжения\Импульсные (DC-DC не изол)\ChargePump\tps6040x_60mA_1.6..5.5Vin.pdf
footprint SOT23-5
pins: 1 Out (out), 2 In (in), 3 Cfly-, 4 GND (power), 5 Cfly+
text: PFKI

## DC/DC_LM3678SD-1.2_Buck_1.5A_0..5V5in_1.2/0.8Vout
designator U?, comment LM3678SD-1.2
Analog: LM3678SDE-1.2; HelpURL: L:\Dev\Техническая документация\Стабилизаторы напряжения\Импульсные (DC-DC не изол)\more than 1MHz\5.5V_1.5A_3.3MHz_LM3678.pdf
footprint WSON-10
pins: 0 PPAD, 1 GND (power), 2 GND (power), 3 SW (out), 4 VDD (power), 5 VDD (power), 6 SEL_1V2/n0V8 (in), 7 PGOOD (oc), 8 PWM (in), 9 EN (in), 10 FB (in)

## DC/DC_MAX15462B_Buck_0.3A_0..42Vin
designator U?, comment MAX15462B
HelpURL: L:\Dev\Техническая документация\Стабилизаторы напряжения\Импульсные (DC-DC не изол)\MaximIC\MAX15462.pdf
footprint TDFN-8
pins: 1 Vin (in), 2 EN/UVLO (in), 3 Vcc (power), 4 FB (in), 5 MODE (in), 6 PG (oc), 7 GND (power), 8 LX (out)

## DC/DC_MAX17501Gxx_Buck_0.5A_0..60in_Adj
designator U?, comment MAX17501GATB+
HelpURL: L:\Dev\Техническая документация\Стабилизаторы напряжения\Импульсные (DC-DC не изол)\MaximIC\60V_05A_MAX17501\60V_0.5A_MAX17501.pdf; ComponentLink1Description: Top Mark; ComponentLink1URL: L:\Dev\Техническая документация\Стабилизаторы напряжения\Импульсные (DC-DC не изол)\MaximIC\60V_05A_MAX17501\MAX17501_TopMark.pdf; ComponentLink2Description: Package; ComponentLink3Description: Land Pattern; ComponentLink3URL: L:\Dev\Техническая документация\Стабилизаторы напряжения\Импульсные (DC-DC не изол)\MaximIC\60V_05A_MAX17501\MAX17501_LandPattern.pdf; ComponentLink2URL: L:\Dev\Техническая документация\Стабилизаторы напряжения\Импульсные (DC-DC не изол)\MaximIC\60V_05A_MAX17501\MAX17501_Package.pdf
footprint TDFN-10
pins: 0 EP (power), 1 PGND (power), 2 Vin (in), 3 EN/UVLO (in), 4 Vcc (power), 5 FB (in), 6 SS (out), 7 COMP, 8 PG (oc), 9 GND (power), 10 LX (out)
text: +AXR

## DC/DC_MAX17502Exx_Buck_1A_0..60in_3V3out
designator U?, comment MAX17502EATB+
Help: MAX17502EATB+ - 3.3V; MAX17502FATB+ 5V; HelpURL: L:\Dev\Техническая документация\Стабилизаторы напряжения\Импульсные (DC-DC не изол)\MaximIC\MAX17502.pdf; ComponentLink1Description: Top Mark; ComponentLink1URL: L:\Dev\Техническая документация\Стабилизаторы напряжения\Импульсные (DC-DC не изол)\MaximIC\MAX17502_top_mark.pdf
footprint TDFN-10
pins: 0 EP (power), 1 PGND (power), 2 Vin (in), 3 EN/UVLO (in), 4 Vcc (power), 5 FB (in), 6 SS (out), 7 NC hidden, 8 PG (oc), 9 GND (power), 10 LX (out)
text: AXX

## DC/DC_MAX17502Fxx_Buck_1A_0..60in_5Vout
designator U?, comment MAX17502FATB+
Help: MAX17502EATB+ - 3.3V; MAX17502FATB+ 5V; HelpURL: L:\Dev\Техническая документация\Стабилизаторы напряжения\Импульсные (DC-DC не изол)\MaximIC\MAX17502.pdf; ComponentLink1Description: Top Mark; ComponentLink1URL: L:\Dev\Техническая документация\Стабилизаторы напряжения\Импульсные (DC-DC не изол)\MaximIC\MAX17502_top_mark.pdf
footprint TDFN-10
pins: 0 EP (power), 1 PGND (power), 2 Vin (in), 3 EN/UVLO (in), 4 Vcc (power), 5 FB (in), 6 SS (out), 7 NC hidden, 8 PG (oc), 9 GND (power), 10 LX (out)
text: AXY

## DC/DC_MAX17502Gxx_Buck_1A_0..60in_Adj
designator U?, comment MAX17502GATB+
Help: MAX17502GATB+ - 3.3V; MAX17502HATB+ 5V; HelpURL: L:\Dev\Техническая документация\Стабилизаторы напряжения\Импульсные (DC-DC не изол)\MaximIC\MAX17502.pdf; ComponentLink1Description: Top Mark; ComponentLink1URL: L:\Dev\Техническая документация\Стабилизаторы напряжения\Импульсные (DC-DC не изол)\MaximIC\MAX17502_top_mark.pdf
footprint TDFN-10
pins: 0 EP (power), 1 PGND (power), 2 Vin (in), 3 EN/UVLO (in), 4 Vcc (power), 5 FB (in), 6 SS (out), 7 COMP, 8 PG (oc), 9 GND (power), 10 LX (out)
text: AXZ

## DC/DC_MAX17504
designator U?, comment MAX17504ATP
HelpURL: L:\Dev\Техническая документация\Стабилизаторы напряжения\Импульсные (DC-DC не изол)\MaximIC\MAX17504.pdf
footprint QFN20
pins: 0 EP (power), 1 Vin (in), 2 Vin (in), 3 Vin (in), 4 EN/UVLO (in), 5 PG (oc), 6 SYNC (in), 7 SS (out), 8 CF (out), 9 FB (in), 10 RT (out), 11 MODE (in), 12 Vcc (power), 13 SGND (power), 14 PGND (power), 15 PGND (power), 16 PGND (power), 17 LX (out), 18 LX (out), 19 LX (out), 20 BST (power)

## DC/DC_MAX17761ATC_Buck_1A_0..76in_Adj
designator U?, comment MAX17761ATC+
HelpURL: L:\Dev\Техническая документация\Стабилизаторы напряжения\Импульсные (DC-DC не изол)\MaximIC\76V_1A_MAX17761\76V_1A_MAX17761.pdf; ComponentLink1Description: Package; ComponentLink1URL: L:\Dev\Техническая документация\Стабилизаторы напряжения\Импульсные (DC-DC не изол)\MaximIC\76V_1A_MAX17761\76V_1A_MAX17761_package.pdf; ComponentLink2Description: Land Pattern; ComponentLink3Description: Evaluation Kit; ComponentLink2URL: L:\Dev\Техническая документация\Стабилизаторы напряжения\Импульсные (DC-DC не изол)\MaximIC\76V_1A_MAX17761\76V_1A_MAX17761_landpattern.pdf; ComponentLink3URL: L:\Dev\Техническая документация\Стабилизаторы напряжения\Импульсные (DC-DC не изол)\MaximIC\76V_1A_MAX17761\76V_1A_MAX17761_EvaluetionKit.pdf
footprint TDFN-12
pins: 0 EP (power), 1 Vin (in), 2 PGND (power), 3 Vcc (power), 4 EN/UVLO (in), 5 PG (oc), 6 RT/SYNC (in), 7 EXTVcc (in), 8 FB (in), 9 SS (out), 10 MODE/LIM (in), 11 SGND (power), 12 LX (out)
text: +ADN

## DC/DC_ST1S09I_Buck_2A_6Vin_Adj
designator U?, comment ST1S09I
HelpURL: L:\Dev\Техническая документация\Стабилизаторы напряжения\Импульсные (DC-DC не изол)\ST\ST1S09_2A_1.5MHz_6Vin.pdf
footprint DFN6D
pins: 0 (power), 1 Vfb (in), 2 GND (power), 3 SW (out), 4 Vin_sw (in), 5 Vin_a (power), 6 INH (in)

## DC/DC_ST1S10PUR_sync_0.9-2MHz
designator U?, comment ST1S10PUR, ST
Vfb: 0.8V; Vinh: On - 1.2V; Off - 0.4V; HelpURL: L:\Dev\Техническая документация\Стабилизаторы напряжения\Импульсные (DC-DC не изол)\ST\ST1S10_3A_1.2MHz_18Vin.pdf
footprint DFN8_ST
pins: 0 PPAD (power), 1 Vin_a (in), 2 INH (in), 3 Vfb (in), 4 AGND (power), 5 SYNC (in), 6 Vin_sw (in), 7 SW (out), 8 PGND (power)

## DC/DC_TLV61046ADBVR_boost_1.8-5.5Vin_28Voutmax
designator U?, comment value TLV61046A  (hidden comment: TLV61046ADBVR, TI)
DC/DC voltage regulator; HelpURL: L:\Dev\Техническая документация\Стабилизаторы напряжения\Бустерные\1MHz+\tlv61046a_1V8_5V5in_28Vout.pdf
footprint SOT23-6
pins: 1 SW (out), 2 GND (power), 3 FB (in), 4 EN (in), 5 Vout (out), 6 VIN (in)

## DC/DC_TPS61170_boost
designator U?, comment TPS61170
DC/DC voltage regulator; HelpURL: L:\Dev\Техническая документация\Стабилизаторы напряжения\Бустерные\1MHz+\tps61170.pdf
footprint PWSON-6
pins: 0 PowerPAD (power), 1 FB (in), 2 COMP (io), 3 GND (power), 4 SW (out), 5 CTRL (in), 6 VIN (in)

## DC/DC_TPS62125DSG_Buck_Adj_0.3A_17Vin
designator U?, comment value TPS62125DSG  (hidden comment: TPS62125DSG, TI)
HelpURL: L:\Dev\Техническая документация\Стабилизаторы напряжения\Импульсные (DC-DC не изол)\1MHZ\tps62125_0.3A_3..17Vin_1.2-10Vout_1MHz.pdf
footprint WSON-8_TI
pins: 0 PwPAD (power), 1 PGND (power), 2 Vin (in), 3 EN (in), 4 EnHys (oc), 5 Vfb (in), 6 Vos (in), 7 SW (out), 8 PGood (oc)
text: SAQ

## DC/DC_TPS62162DSG_Buck_3V3_1A_17Vin
designator U?, comment TPS62162DSG
HelpURL: L:\Dev\Техническая документация\Стабилизаторы напряжения\Импульсные (DC-DC не изол)\more than 1MHz\tps6216x_17Vin_1A_2.25MHz.pdf
footprint WSON-8_TI
pins: 0 PwPAD (power), 1 PGND (power), 2 Vin (in), 3 EN (in), 4 AGND (power), 5 Vfb (in), 6 Vos (in), 7 SW (out), 8 PGood (oc)
text: OUG

## DC/DC_TPS62172DSG_Buck_3V3_0.5A_17Vin
designator U?, comment TPS62172DSG
HelpURL: L:\Dev\Техническая документация\Стабилизаторы напряжения\Импульсные (DC-DC не изол)\more than 1MHz\tps6217x_17Vin_0.5A_2.25MHz.pdf
footprint WSON-8_TI
pins: 0 PwPAD (power), 1 PGND (power), 2 Vin (in), 3 EN (in), 4 AGND (power), 5 Vfb (in), 6 Vos (in), 7 SW (out), 8 PGood (oc)
text: OUG

## DC/DC_TPS62173DSG_Buck_5V_0.5A_17Vin
designator U?, comment TPS62173DSG
HelpURL: L:\Dev\Техническая документация\Стабилизаторы напряжения\Импульсные (DC-DC не изол)\more than 1MHz\tps6217x_17Vin_0.5A_2.25MHz.pdf
footprint WSON-8_TI
pins: 0 PwPAD (power), 1 PGND (power), 2 Vin (in), 3 EN (in), 4 AGND (power), 5 Vfb (in), 6 Vos (in), 7 SW (out), 8 PGood (oc)
text: OUH

## DC/DC_TPS62243DRV_1.8V_0.3A_2-6Vin_sync_sdown
designator U?, comment TPS62243DRV
HelpURL: L:\Dev\Техническая документация\Стабилизаторы напряжения\Импульсные (DC-DC не изол)\more than 1MHz\6V_0.3A_2.25MHz_tps62243.pdf
footprint PWSON-6
pins: 0 GND (power), 1 SW (out), 2 Mode (in), 3 FB (in), 4 EN (in), 5 Vin (in), 6 GND (power)

## DC/DC_TPS62261DRV_1.8V_0.6A_2-6Vin_sync_sdown
designator U?, comment TPS62261DRV
HelpURL: L:\Dev\Техническая документация\Стабилизаторы напряжения\Импульсные (DC-DC не изол)\more than 1MHz\6V_0.6A_2.25MHz_tps6226x_TI.pdf
footprint PWSON-6
pins: 0 GND (power), 1 SW (out), 2 Mode (in), 3 FB (in), 4 EN (in), 5 Vin (in), 6 GND (power)
text: BYL

## DC/DC_TPS62262DRV_1.2V_0.6A_2-6Vin_sync_sdown
designator U?, comment TPS62262DRV
HelpURL: L:\Dev\Техническая документация\Стабилизаторы напряжения\Импульсные (DC-DC не изол)\more than 1MHz\6V_0.6A_2.25MHz_tps6226x_TI.pdf
footprint PWSON-6
pins: 0 GND (power), 1 SW (out), 2 Mode (in), 3 FB (in), 4 EN (in), 5 Vin (in), 6 GND (power)
text: BYM

## DC/DC_TPS63700_invert
designator U?, comment TPS63700
DC/DC voltage regulator
footprint PWSON-10
pins: 0 PowerPAD (power), 1 COMP (io), 2 GND (power), 3 VIN (in), 4 EN (in), 5 IN (in), 6 SW (out), 7 PSGND (power), 8 OVSI (in), 9 FB (in), 10 Vref (out)

## DC/DC_TPS560200_4.5-17_0.5A_600kHz
designator U?, comment TPS560200
Vin: 4.5-17V; Iout: 0.5A; Vfb: 0.8V; EN: On-1.29V; Off-1.05V; max 7V;; fsw: 600kHz; HelpURL: L:\Dev\Техническая документация\Стабилизаторы напряжения\Импульсные (DC-DC не изол)\500кГц\tps560200.pdf
footprint SOT23-5
pins: 1 EN7Vmax (in), 2 GND (power), 3 SW (out), 4 Vin (power), 5 Vfb (in)

## DC_DC_MAX865EUA
designator U?, comment MAX865EUA
footprint uSOP8(uMAX8)
pins: 1 C1-, 2 C2+, 3 C2-, 4 -Vout, 5 GND, 6 +Vin, 7 +Vout, 8 C1+

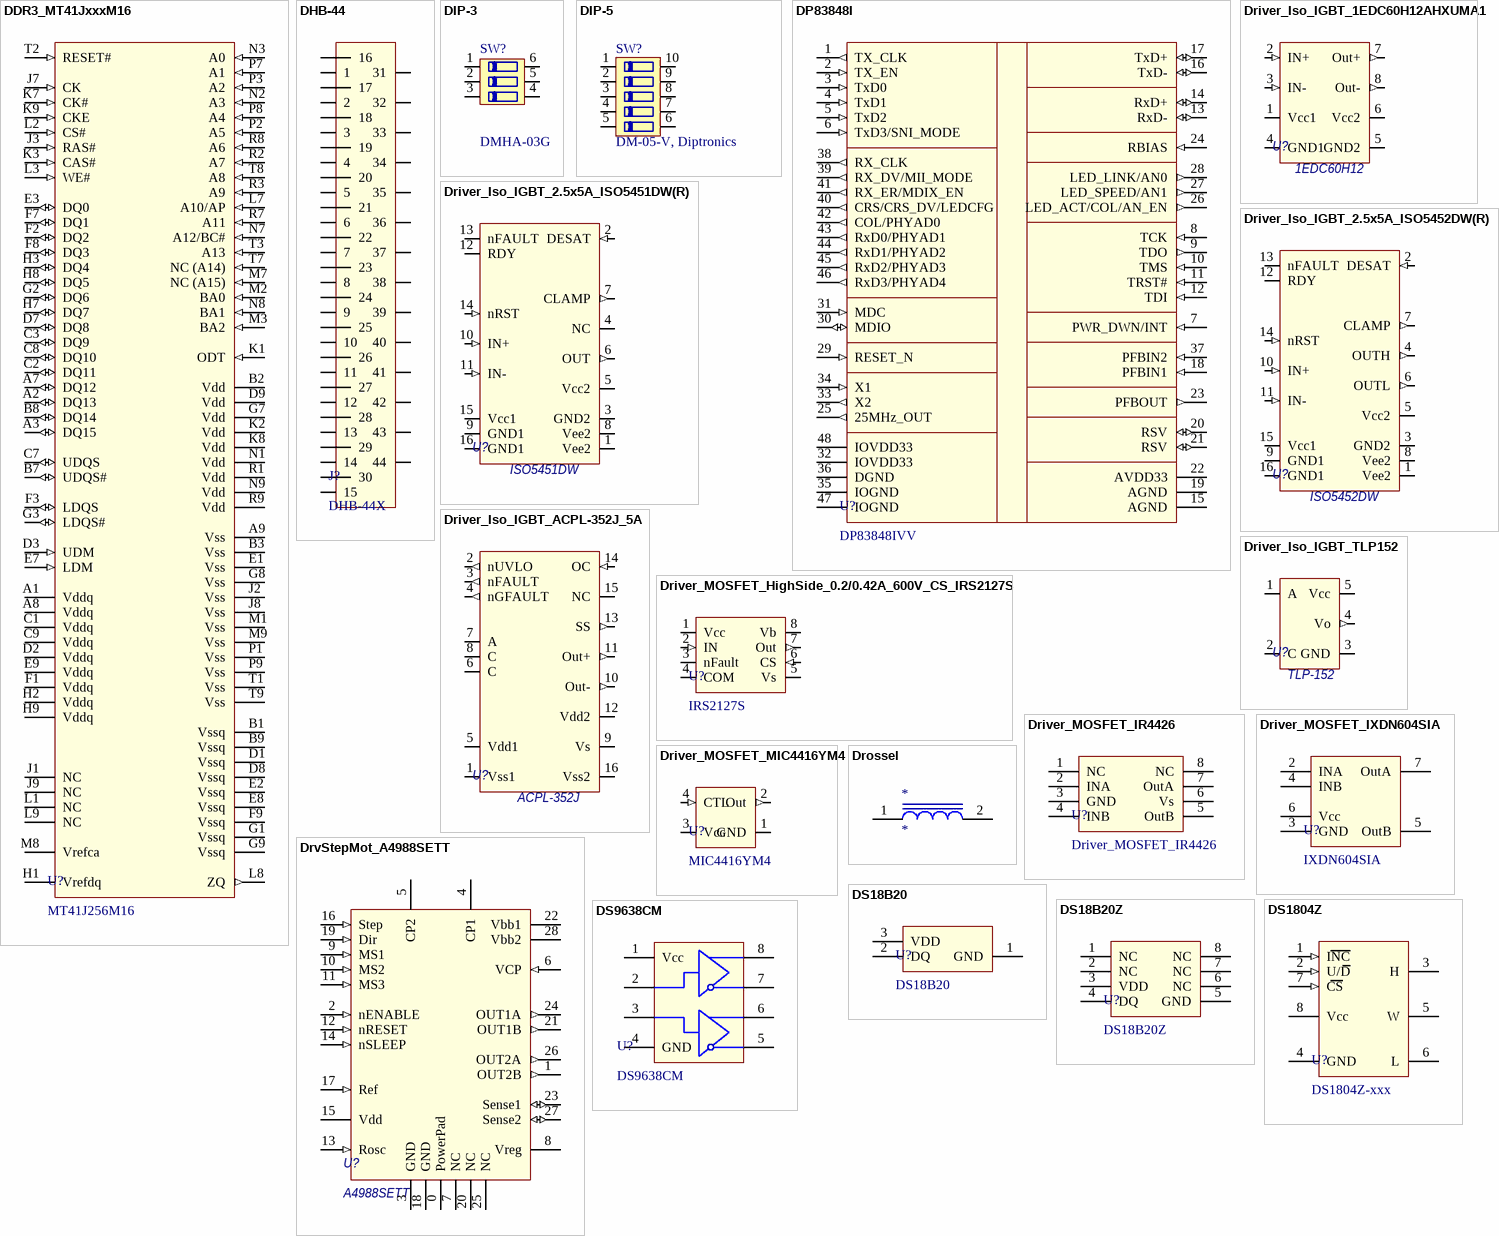
[diagram p10: symbols DDR3_MT41JxxxM16 to DS9638CM]

## DDR3_MT41JxxxM16
designator U?, comment MT41J256M16
footprint BGA96_8x16
pins: A1 Vddq (power), A2 DQ13 (io), A3 DQ15 (io), A7 DQ12 (io), A8 Vddq (power), A9 Vss (power), B1 Vssq (power), B2 Vdd (power), B3 Vss (power), B7 UDQS# (io), B8 DQ14 (io), B9 Vssq (power), C1 Vddq (power), C2 DQ11 (io), C3 DQ9 (io), C7 UDQS (io), C8 DQ10 (io), C9 Vddq (power), D1 Vssq (power), D2 Vddq (power), D3 UDM (in), D7 DQ8 (io), D8 Vssq (power), D9 Vdd (power), E1 Vss (power), E2 Vssq (power), E3 DQ0 (io), E7 LDM (in), E8 Vssq (power), E9 Vddq (power), F1 Vddq (power), F2 DQ2 (io), F3 LDQS (io), F7 DQ1 (io), F8 DQ3 (io), F9 Vssq (power), G1 Vssq (power), G2 DQ6 (io), G3 LDQS# (io), G7 Vdd (power), G8 Vss (power), G9 Vssq (power), H1 Vrefdq (power), H2 Vddq (power), H3 DQ4 (io), H7 DQ7 (io), H8 DQ5 (io), H9 Vddq (power), J1 NC, J2 Vss (power), J3 RAS# (in), J7 CK (in), J8 Vss (power), J9 NC, K1 ODT (in), K2 Vdd (power), K3 CAS# (in), K7 CK# (in), K8 Vdd (power), K9 CKE (in), L1 NC, L2 CS# (in), L3 WE# (in), L7 A10/AP (in), L8 ZQ (out), L9 NC, M1 Vss (power), M2 BA0 (in), M3 BA2 (in), M7 NC (A15) (in), M8 Vrefca (power), M9 Vss (power), N1 Vdd (power), N2 A3 (in), N3 A0 (in), N7 A12/BC# (in), N8 BA1 (in), N9 Vdd (power), P1 Vss (power), P2 A5 (in), P3 A2 (in), P7 A1 (in), P8 A4 (in), P9 Vss (power), R1 Vdd (power), R2 A7 (in), R3 A9 (in), R7 A11 (in), R8 A6 (in), R9 Vdd (power), T1 Vss (power), T2 RESET# (in), T3 A13 (in), T7 NC (A14) (in), T8 A8 (in), T9 Vss (power)

## DHB-44
designator J?, comment DHB-44X
pins: 1, 2, 3, 4, 5, 6, 7, 8, 9, 10, 11, 12, 13, 14, 15, 16, 17, 18, 19, 20, 21, 22, 23, 24, 25, 26, 27, 28, 29, 30, 31, 32, 33, 34, 35, 36, 37, 38, 39, 40, 41, 42, 43, 44

## DIP-3
designator SW?, comment DMHA-03G
footprint SW_DIP_SW-3
pins: 1, 2, 3, 4, 5, 6

## DIP-5
designator SW?, comment DM-05-V, Diptronics
Name: DM-05-V
footprint SW_DIP_SW-5
pins: 1, 2, 3, 4, 5, 6, 7, 8, 9, 10

## DP83848I
designator U?, comment DP83848IVV
footprint LQFP48
pins: 1 TX_CLK (out), 2 TX_EN (in), 3 TxD0 (in), 4 TxD1 (in), 5 TxD2 (in), 6 TxD3/SNI_MODE (in), 7 PWR_DWN/INT (in), 8 TCK (in), 9 TDO (out), 10 TMS (in), 11 TRST# (in), 12 TDI (in), 13 RxD- (io), 14 RxD+ (io), 15 AGND (power), 16 TxD- (io), 17 TxD+ (io), 18 PFBIN1 (in), 19 AGND (power), 20 RSV (io), 21 RSV (io), 22 AVDD33 (power), 23 PFBOUT (out), 24 RBIAS (in), 25 25MHz_OUT (out), 26 LED_ACT/COL/AN_EN (out), 27 LED_SPEED/AN1 (out), 28 LED_LINK/AN0 (out), 29 RESET_N (in), 30 MDIO (io), 31 MDC (in), 32 IOVDD33 (power), 33 X2 (out), 34 X1 (in), 35 IOGND (power), 36 DGND (power), 37 PFBIN2 (in), 38 RX_CLK (out), 39 RX_DV/MII_MODE (out), 40 CRS/CRS_DV/LEDCFG (out), 41 RX_ER/MDIX_EN (out), 42 COL/PHYAD0 (out), 43 RxD0/PHYAD1 (out), 44 RxD1/PHYAD2 (out), 45 RxD2/PHYAD3 (out), 46 RxD3/PHYAD4 (out), 47 IOGND (power), 48 IOVDD33 (power)

## Driver_Iso_IGBT_1EDC60H12AHXUMA1
designator U?, comment value 1EDC60H12  (hidden comment: 1EDC60H12AHXUMA1, Infineon)
Analog: 1EDI60H12AHXUMA1, Infineon; HelpURL: L:\Dev\Техническая документация\Драйверы транзисторов\Изолированные\Infineon-1EDCxxI12AH-DS-v02_00-EN.pdf; Price, $: 3
footprint SO8-10.5-11.5mmx6.3mm
pins: 1 Vcc1 (power), 2 IN+ (in), 3 IN- (in), 4 GND1 (power), 5 GND2 (power), 6 Vcc2 (power), 7 Out+ (out), 8 Out- (out)

## Driver_Iso_IGBT_2.5x5A_ISO5451DW(R)
designator U?, comment value ISO5451DW  (hidden comment: ISO5451DW(R), TI)
HelpURL: L:\Dev\Техническая документация\Драйверы транзисторов\Изолированные\ISO5451_2.5A_5A_SATdet_TI.pdf; Price, $: 2
footprint SO16-10.5-11.5mmx10.3mm
pins: 1 Vee2 (power), 2 DESAT (in), 3 GND2 (power), 4 NC, 5 Vcc2, 6 OUT (out), 7 CLAMP (out), 8 Vee2 (power), 9 GND1 (power), 10 IN+ (in), 11 IN- (in), 12 RDY (oc), 13 nFAULT (oc), 14 nRST (in), 15 Vcc1 (power), 16 GND1 (power)

## Driver_Iso_IGBT_2.5x5A_ISO5452DW(R)
designator U?, comment value ISO5452DW  (hidden comment: ISO5452DW(R), TI)
HelpURL: L:\Dev\Техническая документация\Драйверы транзисторов\Изолированные\ISO5452_2.5A_5A_SATdet_TI.pdf; Price, $: 2.5
footprint SO16-10.5-11.5mmx10.3mm
pins: 1 Vee2 (power), 2 DESAT (in), 3 GND2 (power), 4 OUTH (out), 5 Vcc2, 6 OUTL (out), 7 CLAMP (out), 8 Vee2 (power), 9 GND1 (power), 10 IN+ (in), 11 IN- (in), 12 RDY (oc), 13 nFAULT (oc), 14 nRST (in), 15 Vcc1 (power), 16 GND1 (power)

## Driver_Iso_IGBT_ACPL-352J_5A
designator U?, comment value ACPL-352J  (hidden comment: ACPL-352J, Broadcom)
HelpURL: L:\Dev\Техническая документация\Драйверы транзисторов\Изолированные\ACPL-352J_5A_SATdet.pdf; Price, $: 4
footprint SO16-10.5-11.5mmx10.3mm
pins: 1 Vss1 (power), 2 nUVLO (out), 3 nFAULT (out), 4 nGFAULT (out), 5 Vdd1 (power), 6 C, 7 A, 8 C, 9 Vs (power), 10 Out- (out), 11 Out+ (out), 12 Vdd2 (power), 13 SS (out), 14 OC (in), 15 NC, 16 Vss2 (power)

## Driver_Iso_IGBT_TLP152
designator U?, comment value TLP-152  (hidden comment: TLP152, Toshiba)
HelpURL: L:\Dev\Техническая документация\Драйверы транзисторов\Изолированные\ACPL-352J_5A_SATdet.pdf; Price, $: 0.8
footprint SO-5
pins: 1 A, 2 C, 3 GND (power), 4 Vo (out), 5 Vcc (power)

## Driver_MOSFET_HighSide_0.2/0.42A_600V_CS_IRS2127S
designator U?, comment IRS2127S
HelpURL: L:\Dev\Техническая документация\Драйверы транзисторов\Верхний ключ\IRS2127PBF-DataSheet-v02_00-EN.pdf
footprint SO8
pins: 1 Vcc (power), 2 IN (in), 3 nFault (oc), 4 COM, 5 Vs, 6 CS (in), 7 Out (out), 8 Vb (power)

## Driver_MOSFET_IR4426
designator U?
pins: 1 NC, 2 INA, 3 GND, 4 INB, 5 OutB, 6 Vs, 7 OutA, 8 NC

## Driver_MOSFET_IXDN604SIA
designator U?, comment IXDN604SIA
HelpURL: L:\Dev\Техническая документация\Драйверы транзисторов\Нижний ключ\IXD_604.pdf
footprint SO8
pins: 1 NC hidden, 2 INA, 3 GND, 4 INB, 5 OutB, 6 Vcc, 7 OutA, 8 NC hidden

## Driver_MOSFET_MIC4416YM4
designator U?, comment MIC4416YM4
HelpURL: L:\Dev\Техническая документация\Драйверы транзисторов\Нижний ключ\Microchip\MIC4416_4417_Microchip.pdf
footprint SOT143B
pins: 1 GND (power), 2 Out (out), 3 Vcc (power), 4 CTL (in)

## Drossel
designator *
pins: 1, 2

## DrvStepMot_A4988SETT
designator U?, comment A4988SETT
HelpURL: L:\Dev\Техническая документация\Драйверы шаговых двигателей\Allegro\A4988.pdf
footprint QFN28 (QFN, 28-Leads, Body 5,00x5,00mm, Pitch 0,50mm, Thermal Pad 3,15x3,15mm, IPC Medium Density)
pins: 0 PowerPad, 1 OUT2B (out), 2 nENABLE (in), 3 GND (power), 4 CP1, 5 CP2, 6 VCP (in), 7 NC, 8 Vreg (power), 9 MS1 (in), 10 MS2 (in), 11 MS3 (in), 12 nRESET (in), 13 Rosc (in), 14 nSLEEP (in), 15 Vdd (power), 16 Step (in), 17 Ref (in), 18 GND (power), 19 Dir (in), 20 NC, 21 OUT1B (out), 22 Vbb1 (power), 23 Sense1 (io), 24 OUT1A (out), 25 NC, 26 OUT2A (out), 27 Sense2 (io), 28 Vbb2 (power)

## DS18B20
designator U?
footprint TO-92 _line
pins: 1 GND, 2 DQ, 3 VDD

## DS18B20Z
designator U?
footprint SO8
pins: 1 NC, 2 NC, 3 VDD, 4 DQ, 5 GND, 6 NC, 7 NC, 8 NC

## DS1804Z
designator U?, comment DS1804Z-xxx
footprint SO8
pins: 1 INC (in), 2 U/D (in), 3 H, 4 GND (power), 5 W, 6 L, 7 CS (in), 8 Vcc (power)

## DS9638CM
designator U?
footprint SO8
pins: 1 Vcc (power), 2 (power), 3 (power), 4 GND (power), 5 (power), 6 (power), 7 (power), 8 (power)

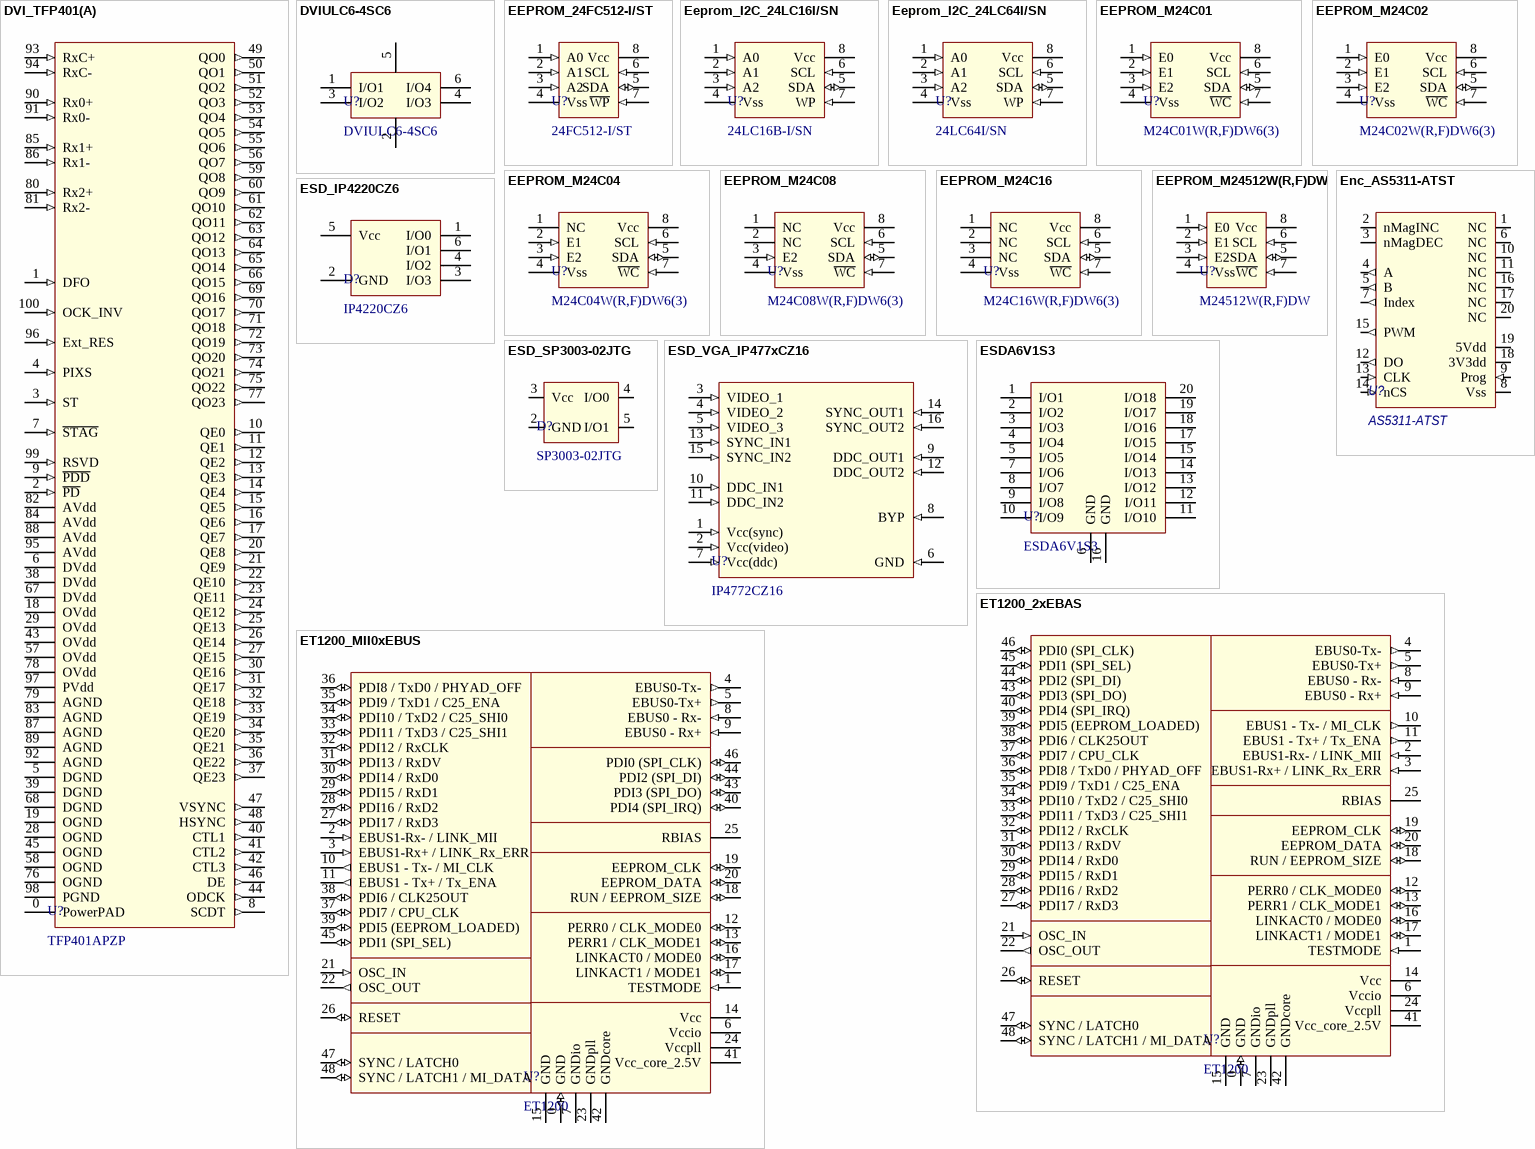
[diagram p11: symbols DVI_TFP401(A) to ET1200_MII0xEBUS]

## DVI_TFP401(A)
designator U?, comment TFP401APZP
footprint PQFP-100(100A)
pins: 0 PowerPAD (power), 1 DFO (in), 2 ~{PD} (in), 3 ST (in), 4 PIXS (in), 5 DGND (power), 6 DVdd (power), 7 ~{STAG} (in), 8 SCDT (out), 9 ~{PDD} (in), 10 QE0 (out), 11 QE1 (out), 12 QE2 (out), 13 QE3 (out), 14 QE4 (out), 15 QE5 (out), 16 QE6 (out), 17 QE7 (out), 18 OVdd (power), 19 OGND (power), 20 QE8 (out), 21 QE9 (out), 22 QE10 (out), 23 QE11 (out), 24 QE12 (out), 25 QE13 (out), 26 QE14 (out), 27 QE15 (out), 28 OGND (power), 29 OVdd (power), 30 QE16 (out), 31 QE17 (out), 32 QE18 (out), 33 QE19 (out), 34 QE20 (out), 35 QE21 (out), 36 QE22 (out), 37 QE23 (out), 38 DVdd (power), 39 DGND (power), 40 CTL1 (out), 41 CTL2 (out), 42 CTL3 (out), 43 OVdd (power), 44 ODCK (out), 45 OGND (power), 46 DE (out), 47 VSYNC (out), 48 HSYNC (out), 49 QO0 (out), 50 QO1 (out), 51 QO2 (out), 52 QO3 (out), 53 QO4 (out), 54 QO5 (out), 55 QO6 (out), 56 QO7 (out), 57 OVdd (power), 58 OGND (power), 59 QO8 (out), 60 QO9 (out), 61 QO10 (out), 62 QO11 (out), 63 QO12 (out), 64 QO13 (out), 65 QO14 (out), 66 QO15 (out), 67 DVdd (power), 68 DGND (power), 69 QO16 (out), 70 QO17 (out), 71 QO18 (out), 72 QO19 (out), 73 QO20 (out), 74 QO21 (out), 75 QO22 (out), 76 OGND (power), 77 QO23 (out), 78 OVdd (power), 79 AGND (power), 80 Rx2+ (in), 81 Rx2- (in), 82 AVdd (power), 83 AGND (power), 84 AVdd (power), 85 Rx1+ (in), 86 Rx1- (in), 87 AGND (power), 88 AVdd (power), 89 AGND (power), 90 Rx0+ (in), 91 Rx0- (in), 92 AGND (power), 93 RxC+ (in), 94 RxC- (in), 95 AVdd (power), 96 Ext_RES (in), 97 PVdd (power), 98 PGND (power), 99 RSVD (in), 100 OCK_INV (in)

## DVIULC6-4SC6
designator U?
footprint SOT23-6
pins: 1 I/O1 (power), 2 GND (power), 3 I/O2 (power), 4 I/O3 (power), 5 Vcc (power), 6 I/O4 (power)

## EEPROM_24FC512-I/ST
designator U?, comment 24FC512-I/ST
I2C_address: 1010(a2a1a0);; HelpURL: L:\Dev\Техническая документация\Память\EEPROM\24AA512_24LC512_24FC512.pdf
footprint TSSOP8
pins: 1 A0 (in), 2 A1 (in), 3 A2 (in), 4 Vss (power), 5 SDA (io), 6 SCL (in), 7 ~{WP} (in), 8 Vcc (power)